# Altium integrated library Xilinx Spartan-II.IntLib: 60 symbols (part 2 of 7)
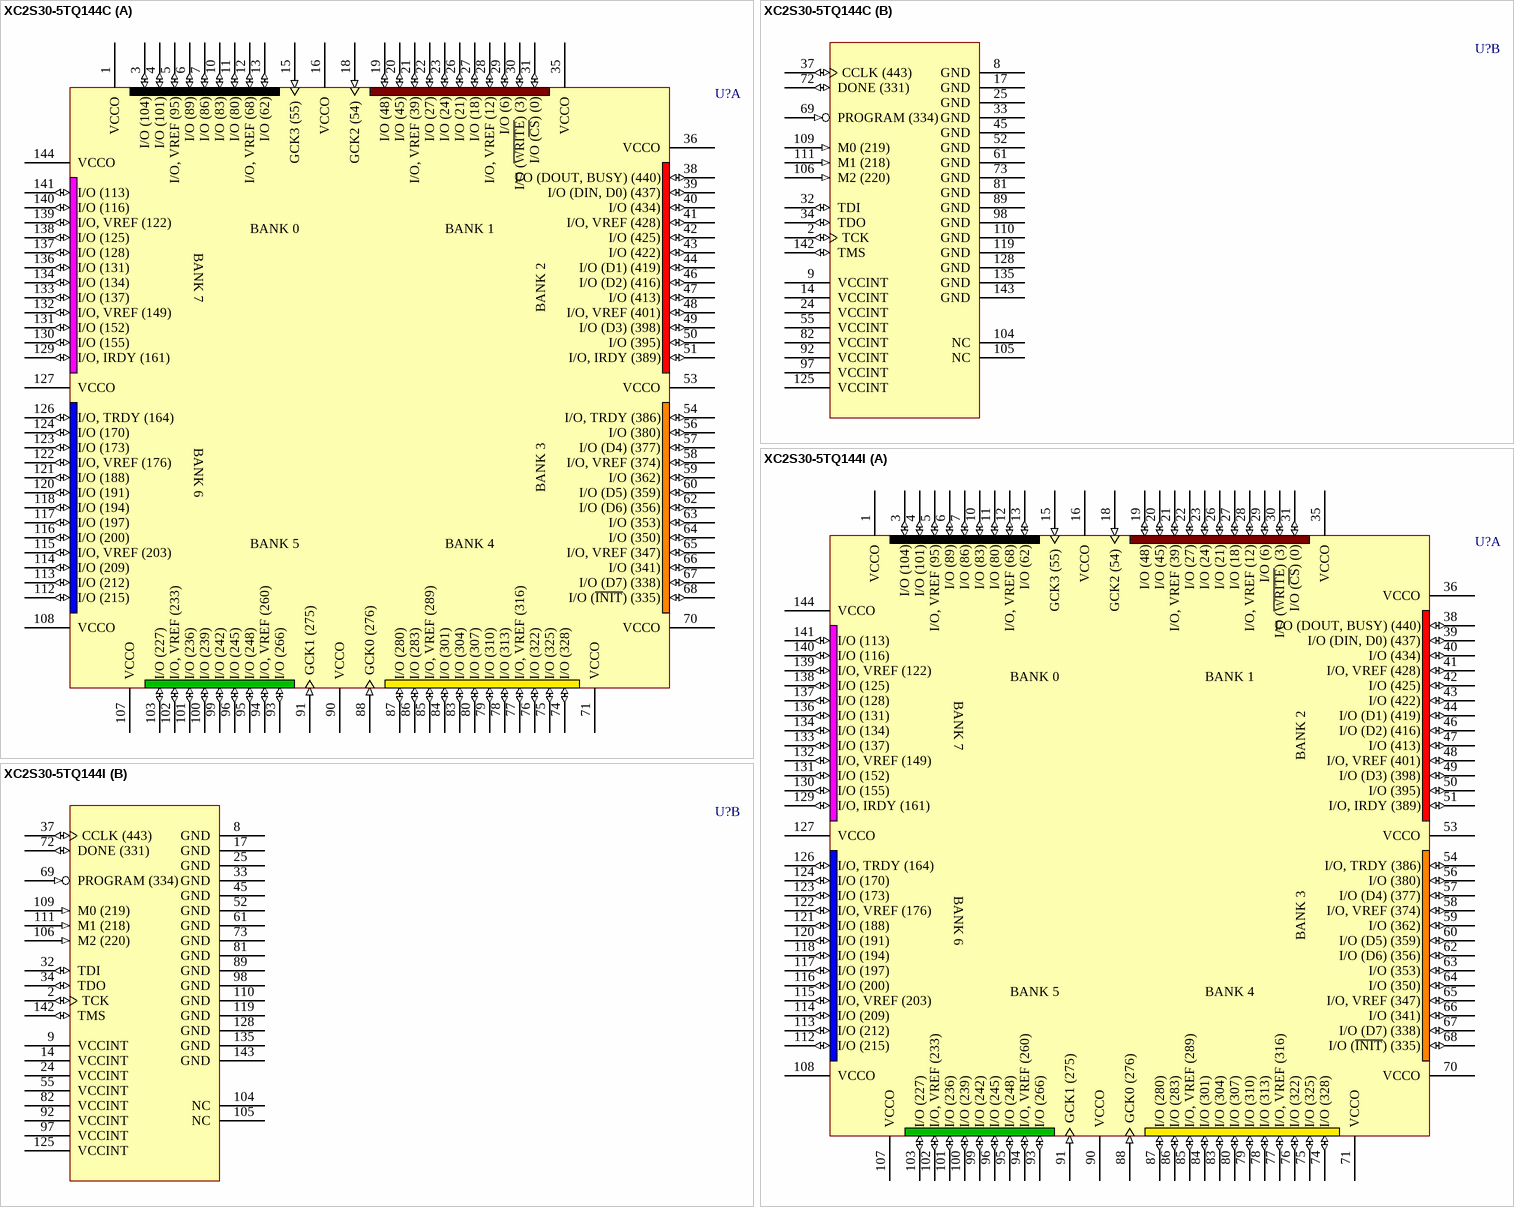
[diagram p75: symbols XC2S30-5TQ144C to XC2S30-5TQ144I]

## XC2S30-5TQ144I
designator U?
Spartan-II 2.5V FPGA, 144-Pin TQFP, Standard Performance, Industrial Grade; PackageDocument: ver1.1, Oct-2002; Published: 13-Jul-2001; LatestRevisionDate: 17-Jul-2002; LatestRevisionNote: Re-released for DXP Platform.; DatasheetDocument: Sep-2003; PackageReference: TQ144; Publisher: Altium Limited; Code_JEDEC: MS-026-BFB; Code_IPC: SQFP20X20-144
footprint TQ144 (144-Pin Thin Quad Flat Pack (TQ144))
3D model XC2S30-TQ144 (144-Pin Thin Quad Flat Pack (TQ144))
signal-integrity model XC2S30_TQ144 (Spartan-II)
part A pins: 1 VCCO (power), 3 I/O (104) (io), 4 I/O (101) (io), 5 I/O, VREF (95) (io), 6 I/O (89) (io), 7 I/O (86) (io), 10 I/O (83) (io), 11 I/O (80) (io), 12 I/O, VREF (68) (io), 13 I/O (62) (io), 15 GCK3 (55) (in), 16 VCCO (power), 18 GCK2 (54) (in), 19 I/O (48) (io), 20 I/O (45) (io), 21 I/O, VREF (39) (io), 22 I/O (27) (io), 23 I/O (24) (io), 26 I/O (21) (io), 27 I/O (18) (io), 28 I/O, VREF (12) (io), 29 I/O (6) (io), 30 I/O (~{WRITE}) (3) (io), 31 I/O (~{CS}) (0) (io), 35 VCCO (power), 36 VCCO (power), 38 I/O (DOUT, BUSY) (440) (io), 39 I/O (DIN, D0) (437) (io), 40 I/O (434) (io), 41 I/O, VREF (428) (io), 42 I/O (425) (io), 43 I/O (422) (io), 44 I/O (D1) (419) (io), 46 I/O (D2) (416) (io), 47 I/O (413) (io), 48 I/O, VREF (401) (io), 49 I/O (D3) (398) (io), 50 I/O (395) (io), 51 I/O, IRDY (389) (io), 53 VCCO (power), 54 I/O, TRDY (386) (io), 56 I/O (380) (io), 57 I/O (D4) (377) (io), 58 I/O, VREF (374) (io), 59 I/O (362) (io), 60 I/O (D5) (359) (io), 62 I/O (D6) (356) (io), 63 I/O (353) (io), 64 I/O (350) (io), 65 I/O, VREF (347) (io), 66 I/O (341) (io), 67 I/O (D7) (338) (io), 68 I/O (~{INIT}) (335) (io), 70 VCCO (power), 71 VCCO (power), 74 I/O (328) (io), 75 I/O (325) (io), 76 I/O (322) (io), 77 I/O, VREF (316) (io), 78 I/O (313) (io), 79 I/O (310) (io), 80 I/O (307) (io), 83 I/O (304) (io), 84 I/O (301) (io), 85 I/O, VREF (289) (io), 86 I/O (283) (io), 87 I/O (280) (io), 88 GCK0 (276) (in), 90 VCCO (power), 91 GCK1 (275) (in), 93 I/O (266) (io), 94 I/O, VREF (260) (io), 95 I/O (248) (io), 96 I/O (245) (io), 99 I/O (242) (io), 100 I/O (239) (io), 101 I/O (236) (io), 102 I/O, VREF (233) (io), 103 I/O (227) (io), 107 VCCO (power), 108 VCCO (power), 112 I/O (215) (io), 113 I/O (212) (io), 114 I/O (209) (io), 115 I/O, VREF (203) (io), 116 I/O (200) (io), 117 I/O (197) (io), 118 I/O (194) (io), 120 I/O (191) (io), 121 I/O (188) (io), 122 I/O, VREF (176) (io), 123 I/O (173) (io), 124 I/O (170) (io), 126 I/O, TRDY (164) (io), 127 VCCO (power), 129 I/O, IRDY (161) (io), 130 I/O (155) (io), 131 I/O (152) (io), 132 I/O, VREF (149) (io), 133 I/O (137) (io), 134 I/O (134) (io), 136 I/O (131) (io), 137 I/O (128) (io), 138 I/O (125) (io), 139 I/O, VREF (122) (io), 140 I/O (116) (io), 141 I/O (113) (io), 144 VCCO (power)
part B pins: 2 TCK (io), 8 GND (power), 9 VCCINT (power), 14 VCCINT (power), 17 GND (power), 24 VCCINT (power), 25 GND (power), 32 TDI (io), 33 GND (power), 34 TDO (io), 37 CCLK (443) (io), 45 GND (power), 52 GND (power), 55 VCCINT (power), 61 GND (power), 69 PROGRAM (334) (in), 72 DONE (331) (io), 73 GND (power), 81 GND (power), 82 VCCINT (power), 89 GND (power), 92 VCCINT (power), 97 VCCINT (power), 98 GND (power), 104 NC, 105 NC, 106 M2 (220) (in), 109 M0 (219) (in), 110 GND (power), 111 M1 (218) (in), 119 GND (power), 125 VCCINT (power), 128 GND (power), 135 GND (power), 142 TMS (io), 143 GND (power)
part A text: BANK 0; BANK 1; BANK 7; BANK 2; BANK 6; BANK 3; BANK 5; BANK 4

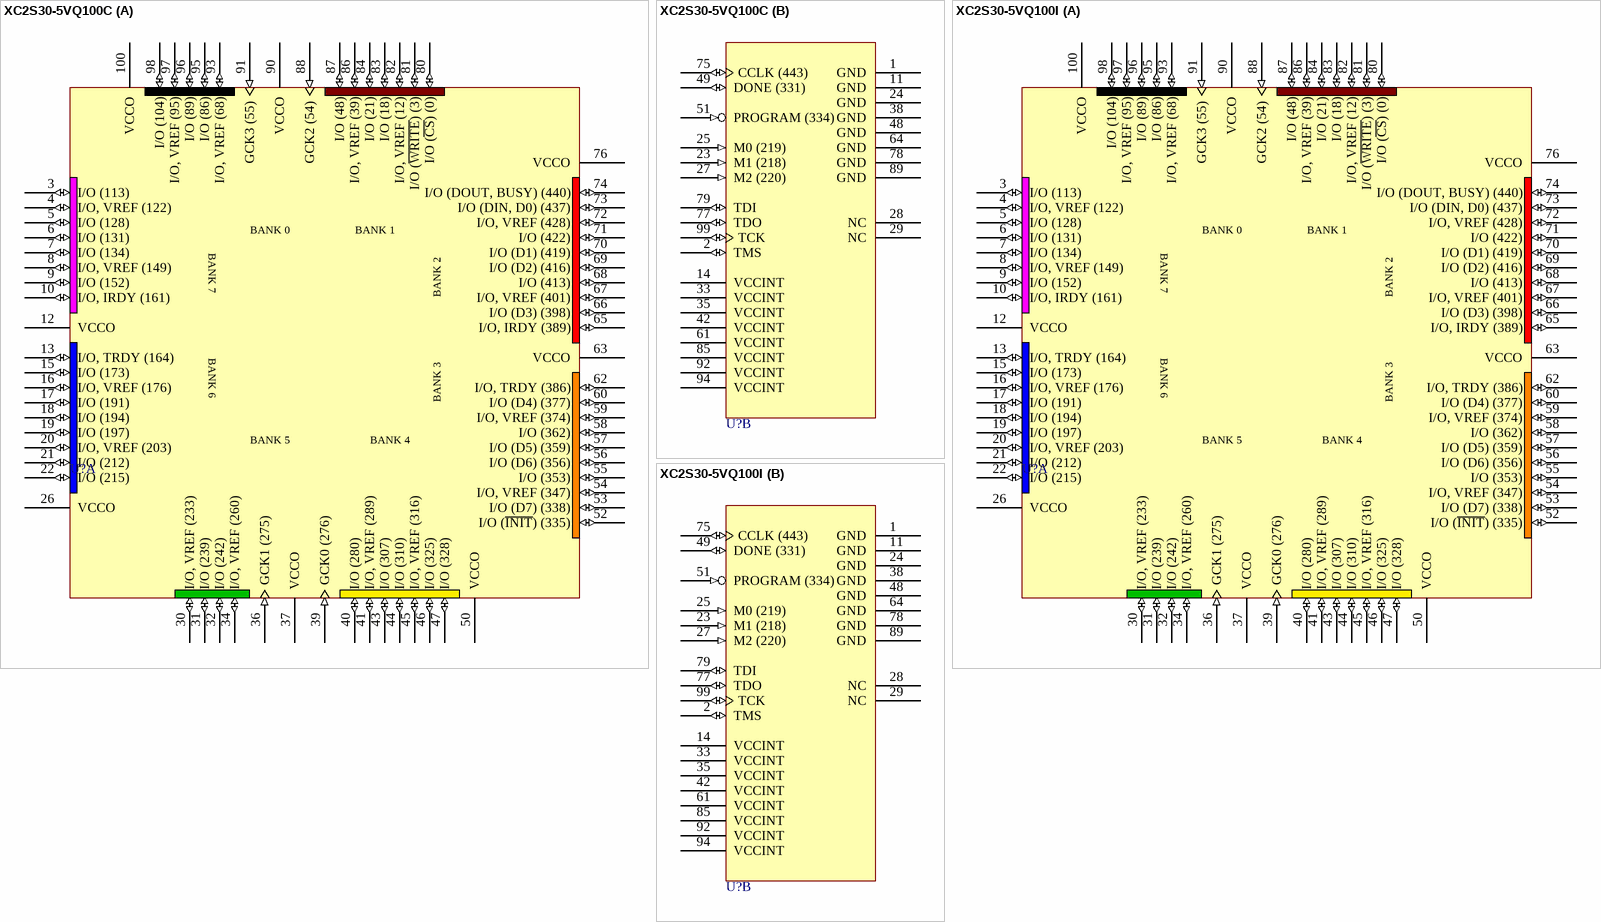
[diagram p9: symbols XC2S30-5VQ100C to XC2S30-5VQ100I]

## XC2S30-5VQ100C
designator U?
Spartan-II 2.5V FPGA, 100-Pin VQFP, Standard Performance, Commercial Grade; PackageDocument: ver1.1, Oct-2002; Published: 13-Jul-2001; LatestRevisionDate: 17-Jul-2002; LatestRevisionNote: Re-released for DXP Platform.; DatasheetDocument: Sep-2003; PackageReference: VQ100; Publisher: Altium Limited; Code_JEDEC: MS-026-AED; Code_IPC: SQFP14X14-100
footprint VQ100 (100-Pin Very Thin Quad Flat Pack (VQ100))
3D model XC2S30-VQ100 (100-Pin Very Thin Quad Flat Pack (VQ100))
signal-integrity model XC2S30_VQ100 (Spartan-II)
part A pins: 3 I/O (113) (io), 4 I/O, VREF (122) (io), 5 I/O (128) (io), 6 I/O (131) (io), 7 I/O (134) (io), 8 I/O, VREF (149) (io), 9 I/O (152) (io), 10 I/O, IRDY (161) (io), 12 VCCO (power), 13 I/O, TRDY (164) (io), 15 I/O (173) (io), 16 I/O, VREF (176) (io), 17 I/O (191) (io), 18 I/O (194) (io), 19 I/O (197) (io), 20 I/O, VREF (203) (io), 21 I/O (212) (io), 22 I/O (215) (io), 26 VCCO (power), 30 I/O, VREF (233) (io), 31 I/O (239) (io), 32 I/O (242) (io), 34 I/O, VREF (260) (io), 36 GCK1 (275) (in), 37 VCCO (power), 39 GCK0 (276) (in), 40 I/O (280) (io), 41 I/O, VREF (289) (io), 43 I/O (307) (io), 44 I/O (310) (io), 45 I/O, VREF (316) (io), 46 I/O (325) (io), 47 I/O (328) (io), 50 VCCO (power), 52 I/O (~{INIT}) (335) (io), 53 I/O (D7) (338) (io), 54 I/O, VREF (347) (io), 55 I/O (353) (io), 56 I/O (D6) (356) (io), 57 I/O (D5) (359) (io), 58 I/O (362) (io), 59 I/O, VREF (374) (io), 60 I/O (D4) (377) (io), 62 I/O, TRDY (386) (io), 63 VCCO (power), 65 I/O, IRDY (389) (io), 66 I/O (D3) (398) (io), 67 I/O, VREF (401) (io), 68 I/O (413) (io), 69 I/O (D2) (416) (io), 70 I/O (D1) (419) (io), 71 I/O (422) (io), 72 I/O, VREF (428) (io), 73 I/O (DIN, D0) (437) (io), 74 I/O (DOUT, BUSY) (440) (io), 76 VCCO (power), 80 I/O (~{CS}) (0) (io), 81 I/O (~{WRITE}) (3) (io), 82 I/O, VREF (12) (io), 83 I/O (18) (io), 84 I/O (21) (io), 86 I/O, VREF (39) (io), 87 I/O (48) (io), 88 GCK2 (54) (in), 90 VCCO (power), 91 GCK3 (55) (in), 93 I/O, VREF (68) (io), 95 I/O (86) (io), 96 I/O (89) (io), 97 I/O, VREF (95) (io), 98 I/O (104) (io), 100 VCCO (power)
part B pins: 1 GND (power), 2 TMS (io), 11 GND (power), 14 VCCINT (power), 23 M1 (218) (in), 24 GND (power), 25 M0 (219) (in), 27 M2 (220) (in), 28 NC, 29 NC, 33 VCCINT (power), 35 VCCINT (power), 38 GND (power), 42 VCCINT (power), 48 GND (power), 49 DONE (331) (io), 51 PROGRAM (334) (in), 61 VCCINT (power), 64 GND (power), 75 CCLK (443) (io), 77 TDO (io), 78 GND (power), 79 TDI (io), 85 VCCINT (power), 89 GND (power), 92 VCCINT (power), 94 VCCINT (power), 99 TCK (io)
part A text: BANK 0; BANK 1; BANK 7; BANK 2; BANK 6; BANK 3; BANK 5; BANK 4

## XC2S30-5VQ100I
designator U?
Spartan-II 2.5V FPGA, 100-Pin VQFP, Standard Performance, Industrial Grade; PackageDocument: ver1.1, Oct-2002; Published: 13-Jul-2001; LatestRevisionDate: 17-Jul-2002; LatestRevisionNote: Re-released for DXP Platform.; DatasheetDocument: Sep-2003; PackageReference: VQ100; Publisher: Altium Limited; Code_JEDEC: MS-026-AED; Code_IPC: SQFP14X14-100
footprint VQ100 (100-Pin Very Thin Quad Flat Pack (VQ100))
3D model XC2S30-VQ100 (100-Pin Very Thin Quad Flat Pack (VQ100))
signal-integrity model XC2S30_VQ100 (Spartan-II)
part A pins: 3 I/O (113) (io), 4 I/O, VREF (122) (io), 5 I/O (128) (io), 6 I/O (131) (io), 7 I/O (134) (io), 8 I/O, VREF (149) (io), 9 I/O (152) (io), 10 I/O, IRDY (161) (io), 12 VCCO (power), 13 I/O, TRDY (164) (io), 15 I/O (173) (io), 16 I/O, VREF (176) (io), 17 I/O (191) (io), 18 I/O (194) (io), 19 I/O (197) (io), 20 I/O, VREF (203) (io), 21 I/O (212) (io), 22 I/O (215) (io), 26 VCCO (power), 30 I/O, VREF (233) (io), 31 I/O (239) (io), 32 I/O (242) (io), 34 I/O, VREF (260) (io), 36 GCK1 (275) (in), 37 VCCO (power), 39 GCK0 (276) (in), 40 I/O (280) (io), 41 I/O, VREF (289) (io), 43 I/O (307) (io), 44 I/O (310) (io), 45 I/O, VREF (316) (io), 46 I/O (325) (io), 47 I/O (328) (io), 50 VCCO (power), 52 I/O (~{INIT}) (335) (io), 53 I/O (D7) (338) (io), 54 I/O, VREF (347) (io), 55 I/O (353) (io), 56 I/O (D6) (356) (io), 57 I/O (D5) (359) (io), 58 I/O (362) (io), 59 I/O, VREF (374) (io), 60 I/O (D4) (377) (io), 62 I/O, TRDY (386) (io), 63 VCCO (power), 65 I/O, IRDY (389) (io), 66 I/O (D3) (398) (io), 67 I/O, VREF (401) (io), 68 I/O (413) (io), 69 I/O (D2) (416) (io), 70 I/O (D1) (419) (io), 71 I/O (422) (io), 72 I/O, VREF (428) (io), 73 I/O (DIN, D0) (437) (io), 74 I/O (DOUT, BUSY) (440) (io), 76 VCCO (power), 80 I/O (~{CS}) (0) (io), 81 I/O (~{WRITE}) (3) (io), 82 I/O, VREF (12) (io), 83 I/O (18) (io), 84 I/O (21) (io), 86 I/O, VREF (39) (io), 87 I/O (48) (io), 88 GCK2 (54) (in), 90 VCCO (power), 91 GCK3 (55) (in), 93 I/O, VREF (68) (io), 95 I/O (86) (io), 96 I/O (89) (io), 97 I/O, VREF (95) (io), 98 I/O (104) (io), 100 VCCO (power)
part B pins: 1 GND (power), 2 TMS (io), 11 GND (power), 14 VCCINT (power), 23 M1 (218) (in), 24 GND (power), 25 M0 (219) (in), 27 M2 (220) (in), 28 NC, 29 NC, 33 VCCINT (power), 35 VCCINT (power), 38 GND (power), 42 VCCINT (power), 48 GND (power), 49 DONE (331) (io), 51 PROGRAM (334) (in), 61 VCCINT (power), 64 GND (power), 75 CCLK (443) (io), 77 TDO (io), 78 GND (power), 79 TDI (io), 85 VCCINT (power), 89 GND (power), 92 VCCINT (power), 94 VCCINT (power), 99 TCK (io)
part A text: BANK 0; BANK 1; BANK 7; BANK 2; BANK 6; BANK 3; BANK 5; BANK 4

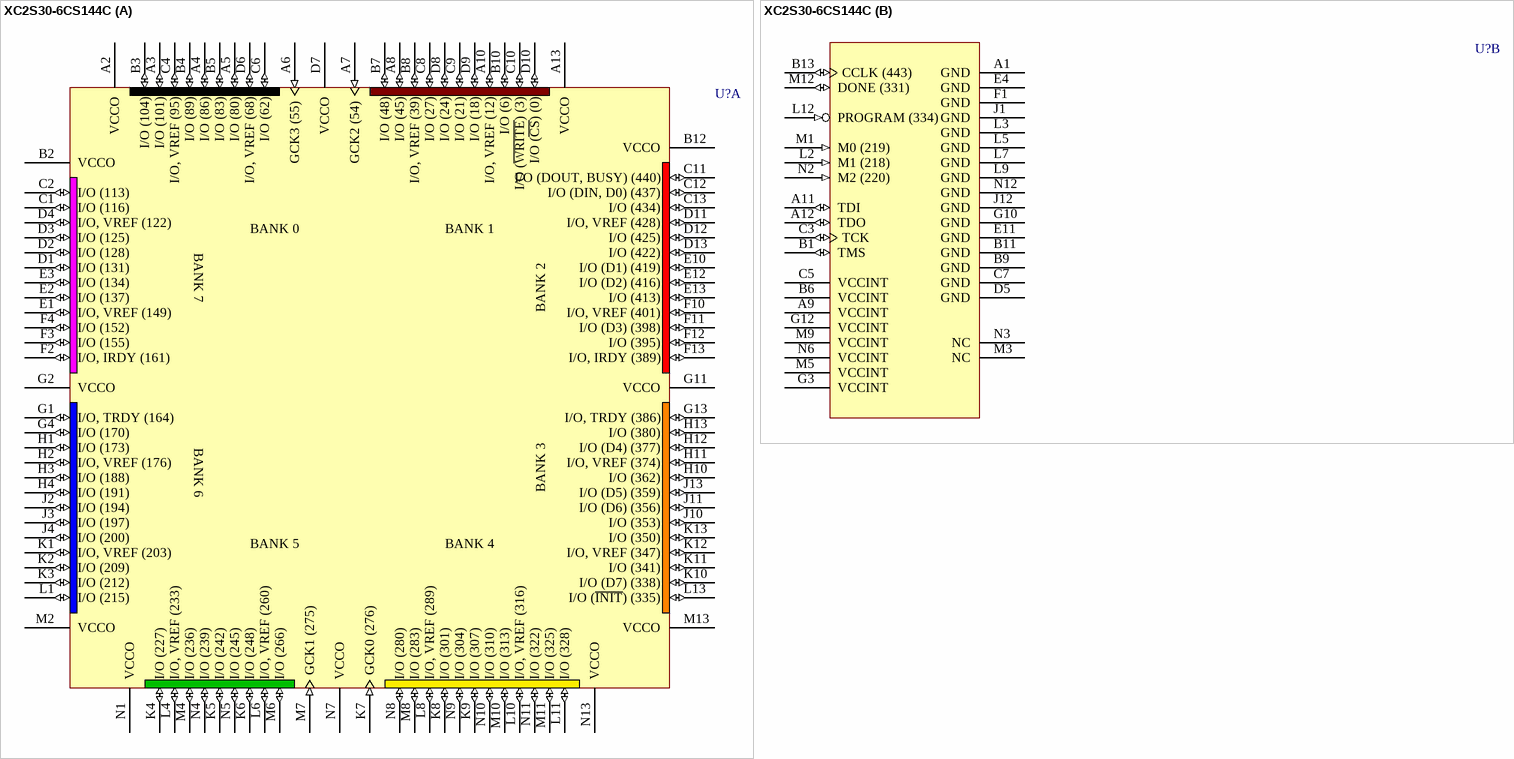
[diagram p10: symbol XC2S30-6CS144C]

## XC2S30-6CS144C
designator U?
Spartan-II 2.5V FPGA, 144-Ball CSBGA, Higher Performance, Commercial Grade; PackageDocument: ver1.0, Jun-2000; Published: 13-Jul-2001; LatestRevisionDate: 17-Sep-2003; LatestRevisionNote: PCB Footprint dimensions updated; DatasheetDocument: Sep-2003; PackageReference: CS144; Publisher: Altium Limited
footprint CS144 (144-Ball Chip Scale Ball Grid Array (CS144))
3D model XC2S30-CS144 (144-Ball Chip Scale Ball Grid Array (CS144))
signal-integrity model XC2S30_CS144 (Spartan-II)
part A pins: A2 VCCO (power), A3 I/O (101) (io), A4 I/O (86) (io), A5 I/O (80) (io), A6 GCK3 (55) (in), A7 GCK2 (54) (in), A8 I/O (45) (io), A10 I/O, VREF (12) (io), A13 VCCO (power), B2 VCCO (power), B3 I/O (104) (io), B4 I/O (89) (io), B5 I/O (83) (io), B7 I/O (48) (io), B8 I/O, VREF (39) (io), B10 I/O (6) (io), B12 VCCO (power), C1 I/O (116) (io), C2 I/O (113) (io), C4 I/O, VREF (95) (io), C6 I/O (62) (io), C8 I/O (27) (io), C9 I/O (21) (io), C10 I/O (~{WRITE}) (3) (io), C11 I/O (DOUT, BUSY) (440) (io), C12 I/O (DIN, D0) (437) (io), C13 I/O (434) (io), D1 I/O (131) (io), D2 I/O (128) (io), D3 I/O (125) (io), D4 I/O, VREF (122) (io), D6 I/O, VREF (68) (io), D7 VCCO (power), D8 I/O (24) (io), D9 I/O (18) (io), D10 I/O (~{CS}) (0) (io), D11 I/O, VREF (428) (io), D12 I/O (425) (io), D13 I/O (422) (io), E1 I/O, VREF (149) (io), E2 I/O (137) (io), E3 I/O (134) (io), E10 I/O (D1) (419) (io), E12 I/O (D2) (416) (io), E13 I/O (413) (io), F2 I/O, IRDY (161) (io), F3 I/O (155) (io), F4 I/O (152) (io), F10 I/O, VREF (401) (io), F11 I/O (D3) (398) (io), F12 I/O (395) (io), F13 I/O, IRDY (389) (io), G1 I/O, TRDY (164) (io), G2 VCCO (power), G4 I/O (170) (io), G11 VCCO (power), G13 I/O, TRDY (386) (io), H1 I/O (173) (io), H2 I/O, VREF (176) (io), H3 I/O (188) (io), H4 I/O (191) (io), H10 I/O (362) (io), H11 I/O, VREF (374) (io), H12 I/O (D4) (377) (io), H13 I/O (380) (io), J2 I/O (194) (io), J3 I/O (197) (io), J4 I/O (200) (io), J10 I/O (353) (io), J11 I/O (D6) (356) (io), J13 I/O (D5) (359) (io), K1 I/O, VREF (203) (io), K2 I/O (209) (io), K3 I/O (212) (io), K4 I/O (227) (io), K5 I/O (242) (io), K6 I/O (248) (io), K7 GCK0 (276) (in), K8 I/O (301) (io), K9 I/O (307) (io), K10 I/O (D7) (338) (io), K11 I/O (341) (io), K12 I/O, VREF (347) (io), K13 I/O (350) (io), L1 I/O (215) (io), L4 I/O, VREF (233) (io), L6 I/O, VREF (260) (io), L8 I/O, VREF (289) (io), L10 I/O, VREF (316) (io), L11 I/O (328) (io), L13 I/O (~{INIT}) (335) (io), M2 VCCO (power), M4 I/O (236) (io), M6 I/O (266) (io), M7 GCK1 (275) (in), M8 I/O (283) (io), M10 I/O (313) (io), M11 I/O (325) (io), M13 VCCO (power), N1 VCCO (power), N4 I/O (239) (io), N5 I/O (245) (io), N7 VCCO (power), N8 I/O (280) (io), N9 I/O (304) (io), N10 I/O (310) (io), N11 I/O (322) (io), N13 VCCO (power)
part B pins: A1 GND (power), A9 VCCINT (power), A11 TDI (io), A12 TDO (io), B1 TMS (io), B6 VCCINT (power), B9 GND (power), B11 GND (power), B13 CCLK (443) (io), C3 TCK (io), C5 VCCINT (power), C7 GND (power), D5 GND (power), E4 GND (power), E11 GND (power), F1 GND (power), G3 VCCINT (power), G10 GND (power), G12 VCCINT (power), J1 GND (power), J12 GND (power), L2 M1 (218) (in), L3 GND (power), L5 GND (power), L7 GND (power), L9 GND (power), L12 PROGRAM (334) (in), M1 M0 (219) (in), M3 NC, M5 VCCINT (power), M9 VCCINT (power), M12 DONE (331) (io), N2 M2 (220) (in), N3 NC, N6 VCCINT (power), N12 GND (power)
part A text: BANK 0; BANK 1; BANK 7; BANK 2; BANK 6; BANK 3; BANK 5; BANK 4

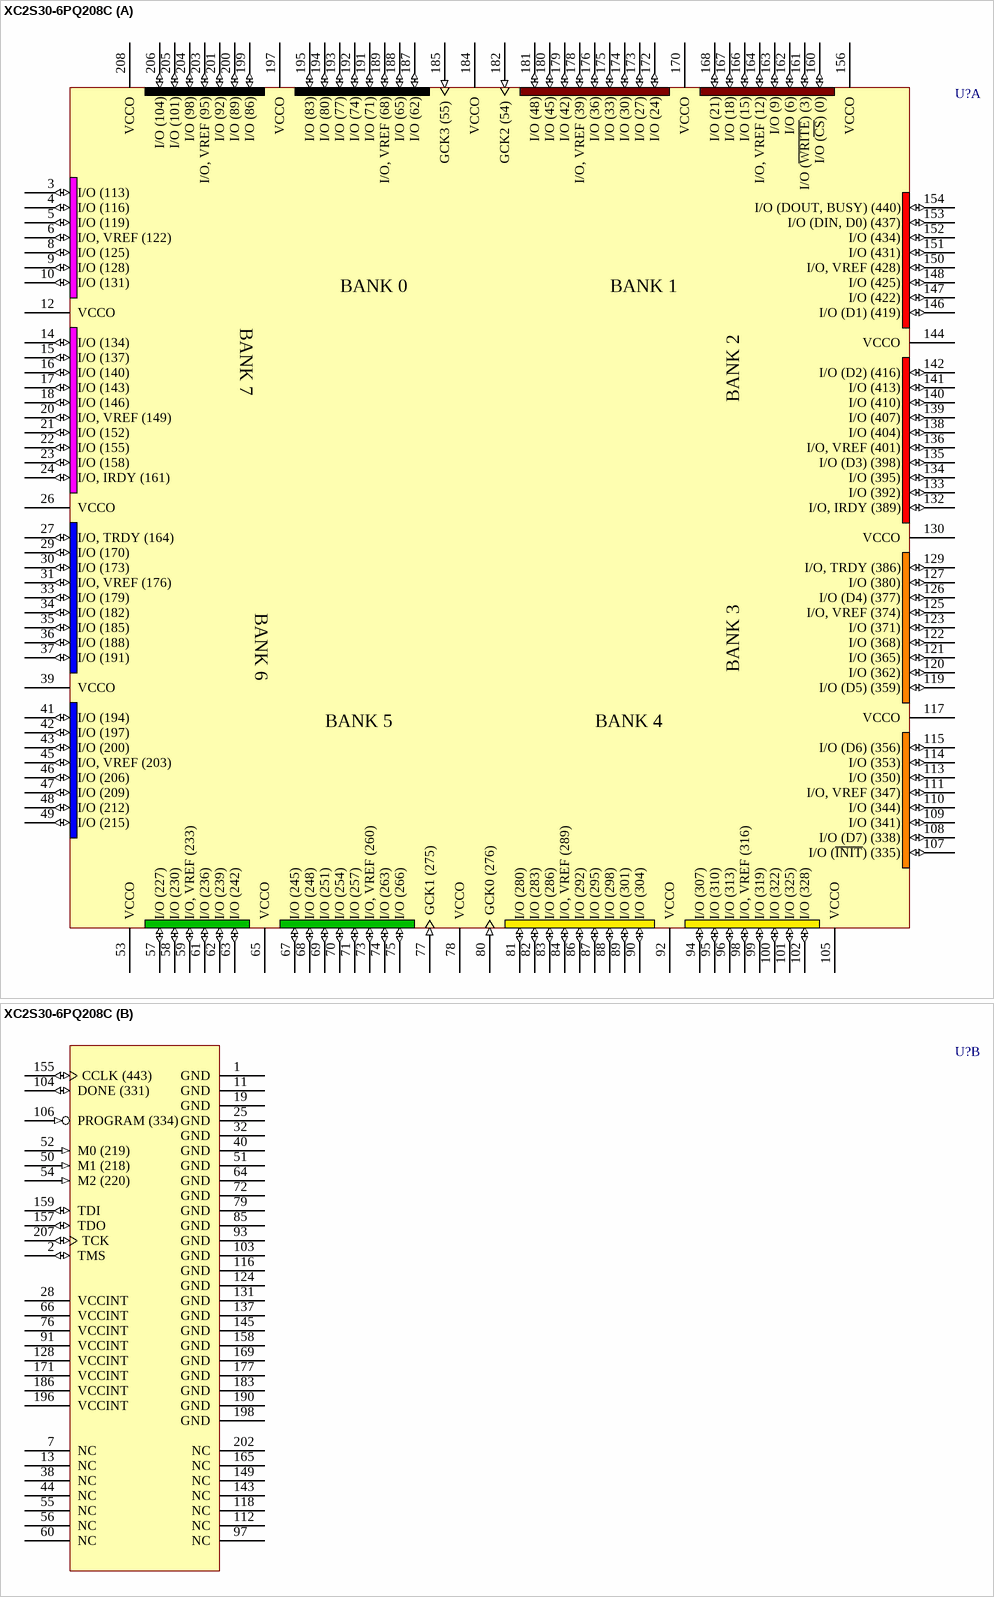
[diagram p11: symbol XC2S30-6PQ208C]

## XC2S30-6PQ208C
designator U?
Spartan-II 2.5V FPGA, 208-Pin PQFP, Higher Performance, Commercial Grade; PackageDocument: ver1.1, Oct-2002; Published: 13-Jul-2001; LatestRevisionDate: 17-Jul-2002; LatestRevisionNote: Re-released for DXP Platform.; DatasheetDocument: Sep-2003; PackageReference: PQ208; Publisher: Altium Limited; Code_JEDEC: MS-029-FA-1
footprint PQ208 (208-Pin Plastic Quad Flat Pack (PQ208))
3D model XC2S30-PQ208 (208-Pin Plastic Quad Flat Pack (PQ208))
signal-integrity model XC2S30_PQ208 (Spartan-II)
part A pins: 3 I/O (113) (io), 4 I/O (116) (io), 5 I/O (119) (io), 6 I/O, VREF (122) (io), 8 I/O (125) (io), 9 I/O (128) (io), 10 I/O (131) (io), 12 VCCO (power), 14 I/O (134) (io), 15 I/O (137) (io), 16 I/O (140) (io), 17 I/O (143) (io), 18 I/O (146) (io), 20 I/O, VREF (149) (io), 21 I/O (152) (io), 22 I/O (155) (io), 23 I/O (158) (io), 24 I/O, IRDY (161) (io), 26 VCCO (power), 27 I/O, TRDY (164) (io), 29 I/O (170) (io), 30 I/O (173) (io), 31 I/O, VREF (176) (io), 33 I/O (179) (io), 34 I/O (182) (io), 35 I/O (185) (io), 36 I/O (188) (io), 37 I/O (191) (io), 39 VCCO (power), 41 I/O (194) (io), 42 I/O (197) (io), 43 I/O (200) (io), 45 I/O, VREF (203) (io), 46 I/O (206) (io), 47 I/O (209) (io), 48 I/O (212) (io), 49 I/O (215) (io), 53 VCCO (power), 57 I/O (227) (io), 58 I/O (230) (io), 59 I/O, VREF (233) (io), 61 I/O (236) (io), 62 I/O (239) (io), 63 I/O (242) (io), 65 VCCO (power), 67 I/O (245) (io), 68 I/O (248) (io), 69 I/O (251) (io), 70 I/O (254) (io), 71 I/O (257) (io), 73 I/O, VREF (260) (io), 74 I/O (263) (io), 75 I/O (266) (io), 77 GCK1 (275) (in), 78 VCCO (power), 80 GCK0 (276) (in), 81 I/O (280) (io), 82 I/O (283) (io), 83 I/O (286) (io), 84 I/O, VREF (289) (io), 86 I/O (292) (io), 87 I/O (295) (io), 88 I/O (298) (io), 89 I/O (301) (io), 90 I/O (304) (io), 92 VCCO (power), 94 I/O (307) (io), 95 I/O (310) (io), 96 I/O (313) (io), 98 I/O, VREF (316) (io), 99 I/O (319) (io), 100 I/O (322) (io), 101 I/O (325) (io), 102 I/O (328) (io), 105 VCCO (power), 107 I/O (~{INIT}) (335) (io), 108 I/O (D7) (338) (io), 109 I/O (341) (io), 110 I/O (344) (io), 111 I/O, VREF (347) (io), 113 I/O (350) (io), 114 I/O (353) (io), 115 I/O (D6) (356) (io), 117 VCCO (power), 119 I/O (D5) (359) (io), 120 I/O (362) (io), 121 I/O (365) (io), 122 I/O (368) (io), 123 I/O (371) (io), 125 I/O, VREF (374) (io), 126 I/O (D4) (377) (io), 127 I/O (380) (io), 129 I/O, TRDY (386) (io), 130 VCCO (power), 132 I/O, IRDY (389) (io), 133 I/O (392) (io), 134 I/O (395) (io), 135 I/O (D3) (398) (io), 136 I/O, VREF (401) (io), 138 I/O (404) (io), 139 I/O (407) (io), 140 I/O (410) (io), 141 I/O (413) (io), 142 I/O (D2) (416) (io), 144 VCCO (power), 146 I/O (D1) (419) (io), 147 I/O (422) (io), 148 I/O (425) (io), 150 I/O, VREF (428) (io), 151 I/O (431) (io), 152 I/O (434) (io), 153 I/O (DIN, D0) (437) (io), 154 I/O (DOUT, BUSY) (440) (io), 156 VCCO (power), 160 I/O (~{CS}) (0) (io), 161 I/O (~{WRITE}) (3) (io), 162 I/O (6) (io), 163 I/O (9) (io), 164 I/O, VREF (12) (io), 166 I/O (15) (io), 167 I/O (18) (io), 168 I/O (21) (io), 170 VCCO (power), 172 I/O (24) (io), 173 I/O (27) (io), 174 I/O (30) (io), 175 I/O (33) (io), 176 I/O (36) (io), 178 I/O, VREF (39) (io), 179 I/O (42) (io), 180 I/O (45) (io), 181 I/O (48) (io), 182 GCK2 (54) (in), 184 VCCO (power), 185 GCK3 (55) (in), 187 I/O (62) (io), 188 I/O (65) (io), 189 I/O, VREF (68) (io), 191 I/O (71) (io), 192 I/O (74) (io), 193 I/O (77) (io), 194 I/O (80) (io), 195 I/O (83) (io), 197 VCCO (power), 199 I/O (86) (io), 200 I/O (89) (io), 201 I/O (92) (io), 203 I/O, VREF (95) (io), 204 I/O (98) (io), 205 I/O (101) (io), 206 I/O (104) (io), 208 VCCO (power)
part B pins: 1 GND (power), 2 TMS (io), 7 NC, 11 GND (power), 13 NC, 19 GND (power), 25 GND (power), 28 VCCINT (power), 32 GND (power), 38 NC, 40 GND (power), 44 NC, 50 M1 (218) (in), 51 GND (power), 52 M0 (219) (in), 54 M2 (220) (in), 55 NC, 56 NC, 60 NC, 64 GND (power), 66 VCCINT (power), 72 GND (power), 76 VCCINT (power), 79 GND (power), 85 GND (power), 91 VCCINT (power), 93 GND (power), 97 NC, 103 GND (power), 104 DONE (331) (io), 106 PROGRAM (334) (in), 112 NC, 116 GND (power), 118 NC, 124 GND (power), 128 VCCINT (power), 131 GND (power), 137 GND (power), 143 NC, 145 GND (power), 149 NC, 155 CCLK (443) (io), 157 TDO (io), 158 GND (power), 159 TDI (io), 165 NC, 169 GND (power), 171 VCCINT (power), 177 GND (power), 183 GND (power), 186 VCCINT (power), 190 GND (power), 196 VCCINT (power), 198 GND (power), 202 NC, 207 TCK (io)
part A text: BANK 0; BANK 1; BANK 7; BANK 2; BANK 6; BANK 3; BANK 5; BANK 4

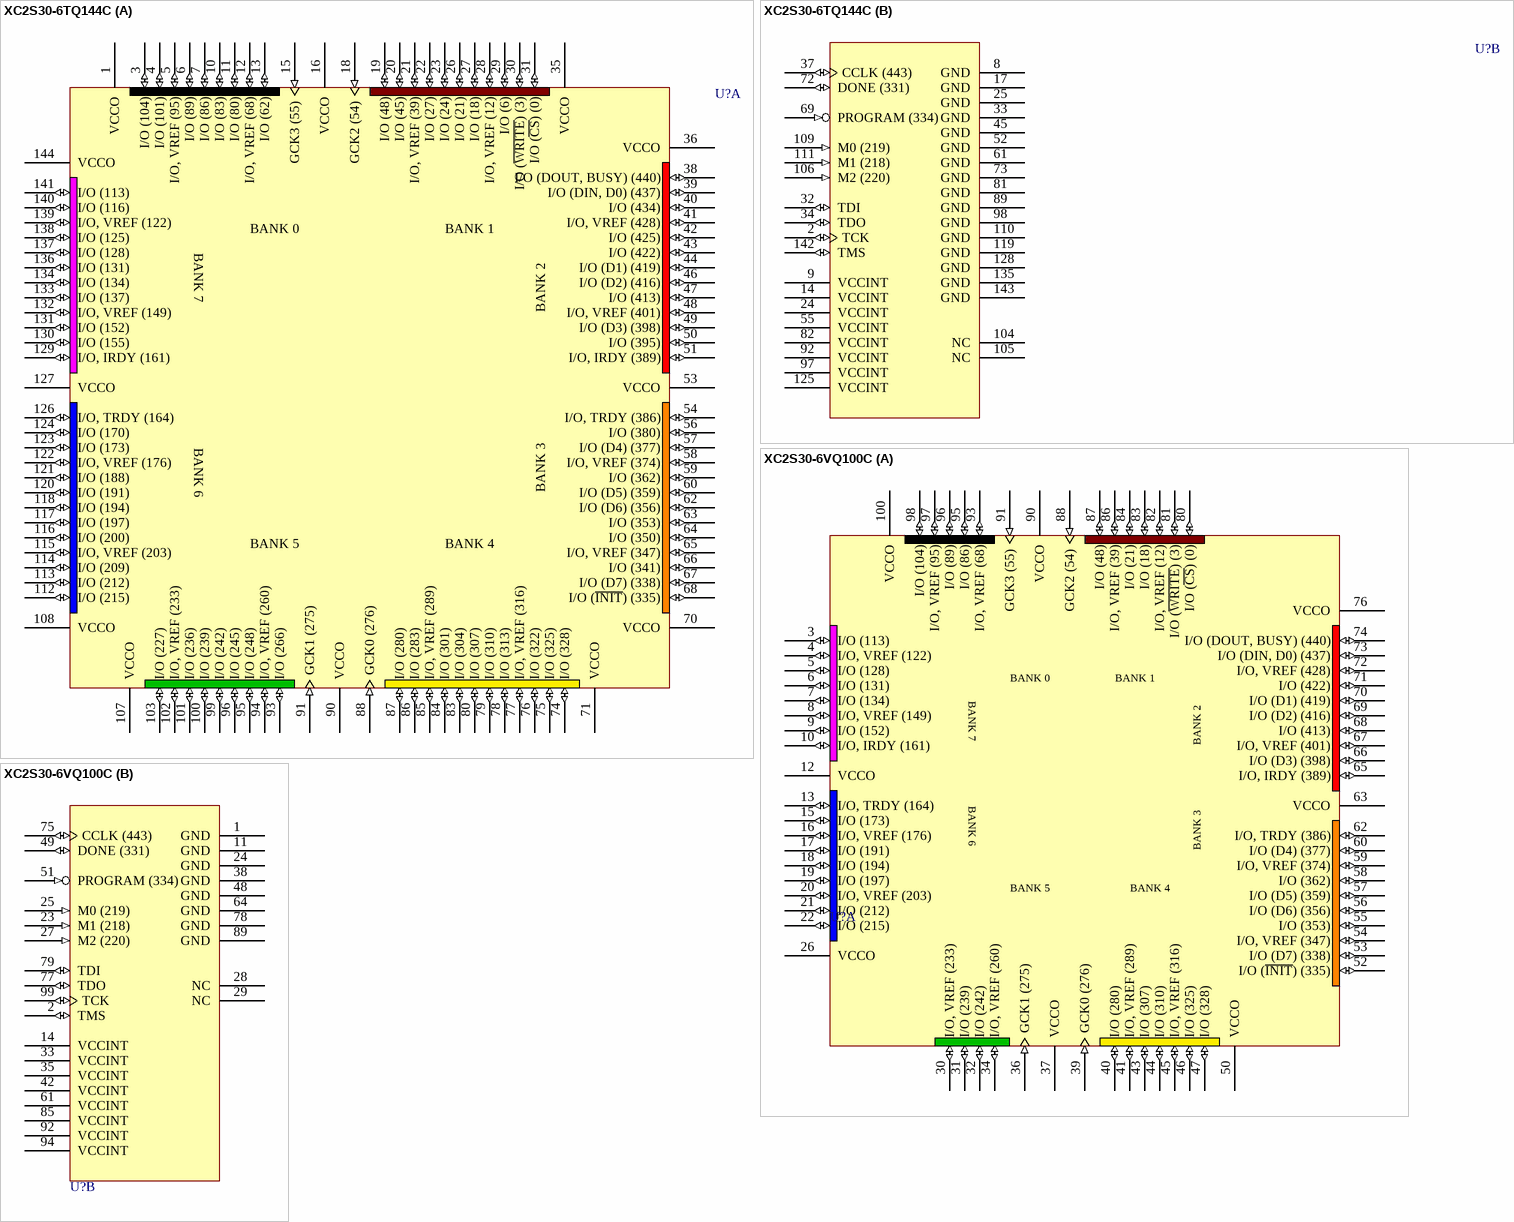
[diagram p12: symbols XC2S30-6TQ144C to XC2S30-6VQ100C]

## XC2S30-6TQ144C
designator U?
Spartan-II 2.5V FPGA, 144-Pin TQFP, Higher Performance, Commercial Grade; PackageDocument: ver1.1, Oct-2002; Published: 13-Jul-2001; LatestRevisionDate: 17-Jul-2002; LatestRevisionNote: Re-released for DXP Platform.; DatasheetDocument: Sep-2003; PackageReference: TQ144; Publisher: Altium Limited; Code_JEDEC: MS-026-BFB; Code_IPC: SQFP20X20-144
footprint TQ144 (144-Pin Thin Quad Flat Pack (TQ144))
3D model XC2S30-TQ144 (144-Pin Thin Quad Flat Pack (TQ144))
signal-integrity model XC2S30_TQ144 (Spartan-II)
part A pins: 1 VCCO (power), 3 I/O (104) (io), 4 I/O (101) (io), 5 I/O, VREF (95) (io), 6 I/O (89) (io), 7 I/O (86) (io), 10 I/O (83) (io), 11 I/O (80) (io), 12 I/O, VREF (68) (io), 13 I/O (62) (io), 15 GCK3 (55) (in), 16 VCCO (power), 18 GCK2 (54) (in), 19 I/O (48) (io), 20 I/O (45) (io), 21 I/O, VREF (39) (io), 22 I/O (27) (io), 23 I/O (24) (io), 26 I/O (21) (io), 27 I/O (18) (io), 28 I/O, VREF (12) (io), 29 I/O (6) (io), 30 I/O (~{WRITE}) (3) (io), 31 I/O (~{CS}) (0) (io), 35 VCCO (power), 36 VCCO (power), 38 I/O (DOUT, BUSY) (440) (io), 39 I/O (DIN, D0) (437) (io), 40 I/O (434) (io), 41 I/O, VREF (428) (io), 42 I/O (425) (io), 43 I/O (422) (io), 44 I/O (D1) (419) (io), 46 I/O (D2) (416) (io), 47 I/O (413) (io), 48 I/O, VREF (401) (io), 49 I/O (D3) (398) (io), 50 I/O (395) (io), 51 I/O, IRDY (389) (io), 53 VCCO (power), 54 I/O, TRDY (386) (io), 56 I/O (380) (io), 57 I/O (D4) (377) (io), 58 I/O, VREF (374) (io), 59 I/O (362) (io), 60 I/O (D5) (359) (io), 62 I/O (D6) (356) (io), 63 I/O (353) (io), 64 I/O (350) (io), 65 I/O, VREF (347) (io), 66 I/O (341) (io), 67 I/O (D7) (338) (io), 68 I/O (~{INIT}) (335) (io), 70 VCCO (power), 71 VCCO (power), 74 I/O (328) (io), 75 I/O (325) (io), 76 I/O (322) (io), 77 I/O, VREF (316) (io), 78 I/O (313) (io), 79 I/O (310) (io), 80 I/O (307) (io), 83 I/O (304) (io), 84 I/O (301) (io), 85 I/O, VREF (289) (io), 86 I/O (283) (io), 87 I/O (280) (io), 88 GCK0 (276) (in), 90 VCCO (power), 91 GCK1 (275) (in), 93 I/O (266) (io), 94 I/O, VREF (260) (io), 95 I/O (248) (io), 96 I/O (245) (io), 99 I/O (242) (io), 100 I/O (239) (io), 101 I/O (236) (io), 102 I/O, VREF (233) (io), 103 I/O (227) (io), 107 VCCO (power), 108 VCCO (power), 112 I/O (215) (io), 113 I/O (212) (io), 114 I/O (209) (io), 115 I/O, VREF (203) (io), 116 I/O (200) (io), 117 I/O (197) (io), 118 I/O (194) (io), 120 I/O (191) (io), 121 I/O (188) (io), 122 I/O, VREF (176) (io), 123 I/O (173) (io), 124 I/O (170) (io), 126 I/O, TRDY (164) (io), 127 VCCO (power), 129 I/O, IRDY (161) (io), 130 I/O (155) (io), 131 I/O (152) (io), 132 I/O, VREF (149) (io), 133 I/O (137) (io), 134 I/O (134) (io), 136 I/O (131) (io), 137 I/O (128) (io), 138 I/O (125) (io), 139 I/O, VREF (122) (io), 140 I/O (116) (io), 141 I/O (113) (io), 144 VCCO (power)
part B pins: 2 TCK (io), 8 GND (power), 9 VCCINT (power), 14 VCCINT (power), 17 GND (power), 24 VCCINT (power), 25 GND (power), 32 TDI (io), 33 GND (power), 34 TDO (io), 37 CCLK (443) (io), 45 GND (power), 52 GND (power), 55 VCCINT (power), 61 GND (power), 69 PROGRAM (334) (in), 72 DONE (331) (io), 73 GND (power), 81 GND (power), 82 VCCINT (power), 89 GND (power), 92 VCCINT (power), 97 VCCINT (power), 98 GND (power), 104 NC, 105 NC, 106 M2 (220) (in), 109 M0 (219) (in), 110 GND (power), 111 M1 (218) (in), 119 GND (power), 125 VCCINT (power), 128 GND (power), 135 GND (power), 142 TMS (io), 143 GND (power)
part A text: BANK 0; BANK 1; BANK 7; BANK 2; BANK 6; BANK 3; BANK 5; BANK 4

## XC2S30-6VQ100C
designator U?
Spartan-II 2.5V FPGA, 100-Pin VQFP, Higher Performance, Commercial Grade; PackageDocument: ver1.1, Oct-2002; Published: 13-Jul-2001; LatestRevisionDate: 17-Jul-2002; LatestRevisionNote: Re-released for DXP Platform.; DatasheetDocument: Sep-2003; PackageReference: VQ100; Publisher: Altium Limited; Code_JEDEC: MS-026-AED; Code_IPC: SQFP14X14-100
footprint VQ100 (100-Pin Very Thin Quad Flat Pack (VQ100))
3D model XC2S30-VQ100 (100-Pin Very Thin Quad Flat Pack (VQ100))
signal-integrity model XC2S30_VQ100 (Spartan-II)
part A pins: 3 I/O (113) (io), 4 I/O, VREF (122) (io), 5 I/O (128) (io), 6 I/O (131) (io), 7 I/O (134) (io), 8 I/O, VREF (149) (io), 9 I/O (152) (io), 10 I/O, IRDY (161) (io), 12 VCCO (power), 13 I/O, TRDY (164) (io), 15 I/O (173) (io), 16 I/O, VREF (176) (io), 17 I/O (191) (io), 18 I/O (194) (io), 19 I/O (197) (io), 20 I/O, VREF (203) (io), 21 I/O (212) (io), 22 I/O (215) (io), 26 VCCO (power), 30 I/O, VREF (233) (io), 31 I/O (239) (io), 32 I/O (242) (io), 34 I/O, VREF (260) (io), 36 GCK1 (275) (in), 37 VCCO (power), 39 GCK0 (276) (in), 40 I/O (280) (io), 41 I/O, VREF (289) (io), 43 I/O (307) (io), 44 I/O (310) (io), 45 I/O, VREF (316) (io), 46 I/O (325) (io), 47 I/O (328) (io), 50 VCCO (power), 52 I/O (~{INIT}) (335) (io), 53 I/O (D7) (338) (io), 54 I/O, VREF (347) (io), 55 I/O (353) (io), 56 I/O (D6) (356) (io), 57 I/O (D5) (359) (io), 58 I/O (362) (io), 59 I/O, VREF (374) (io), 60 I/O (D4) (377) (io), 62 I/O, TRDY (386) (io), 63 VCCO (power), 65 I/O, IRDY (389) (io), 66 I/O (D3) (398) (io), 67 I/O, VREF (401) (io), 68 I/O (413) (io), 69 I/O (D2) (416) (io), 70 I/O (D1) (419) (io), 71 I/O (422) (io), 72 I/O, VREF (428) (io), 73 I/O (DIN, D0) (437) (io), 74 I/O (DOUT, BUSY) (440) (io), 76 VCCO (power), 80 I/O (~{CS}) (0) (io), 81 I/O (~{WRITE}) (3) (io), 82 I/O, VREF (12) (io), 83 I/O (18) (io), 84 I/O (21) (io), 86 I/O, VREF (39) (io), 87 I/O (48) (io), 88 GCK2 (54) (in), 90 VCCO (power), 91 GCK3 (55) (in), 93 I/O, VREF (68) (io), 95 I/O (86) (io), 96 I/O (89) (io), 97 I/O, VREF (95) (io), 98 I/O (104) (io), 100 VCCO (power)
part B pins: 1 GND (power), 2 TMS (io), 11 GND (power), 14 VCCINT (power), 23 M1 (218) (in), 24 GND (power), 25 M0 (219) (in), 27 M2 (220) (in), 28 NC, 29 NC, 33 VCCINT (power), 35 VCCINT (power), 38 GND (power), 42 VCCINT (power), 48 GND (power), 49 DONE (331) (io), 51 PROGRAM (334) (in), 61 VCCINT (power), 64 GND (power), 75 CCLK (443) (io), 77 TDO (io), 78 GND (power), 79 TDI (io), 85 VCCINT (power), 89 GND (power), 92 VCCINT (power), 94 VCCINT (power), 99 TCK (io)
part A text: BANK 0; BANK 1; BANK 7; BANK 2; BANK 6; BANK 3; BANK 5; BANK 4

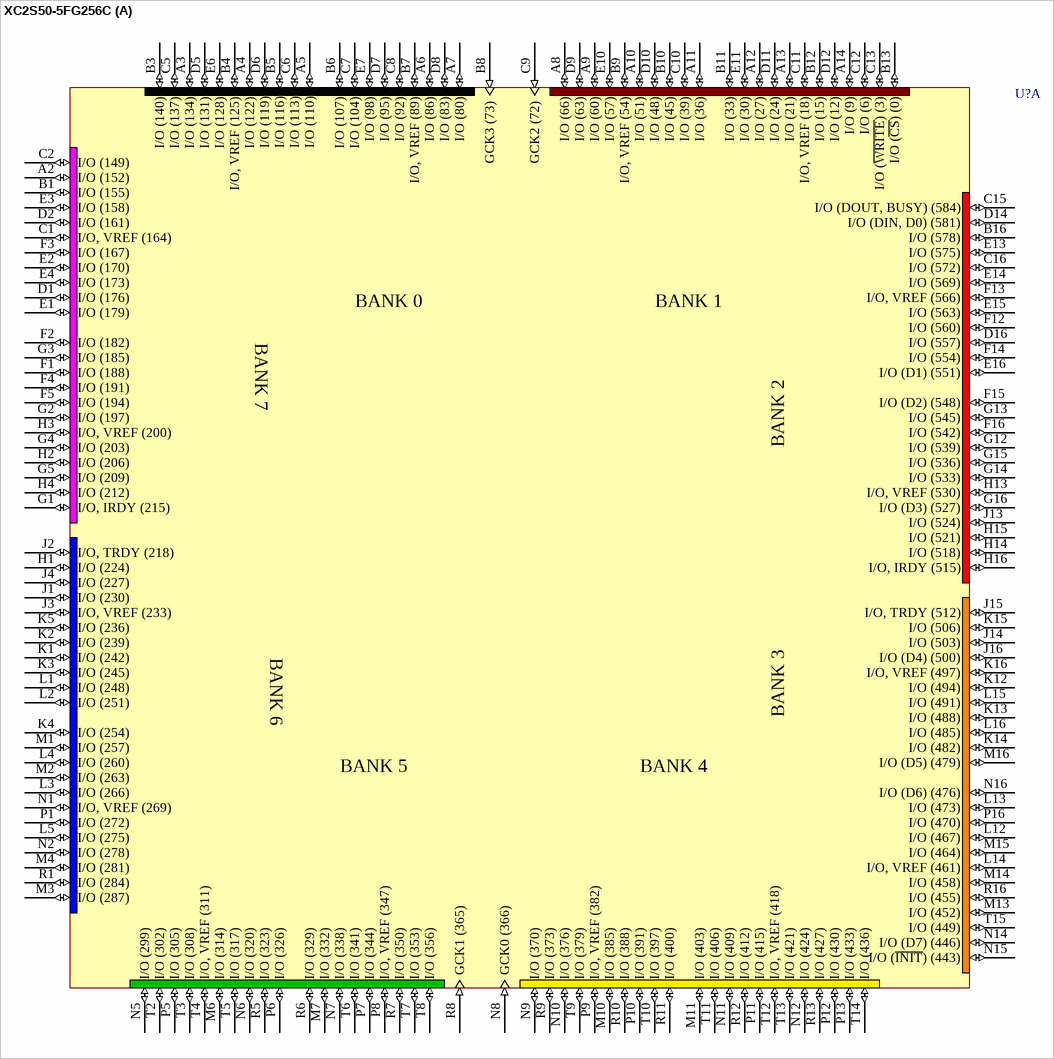
[diagram p13: symbol XC2S50-5FG256C]

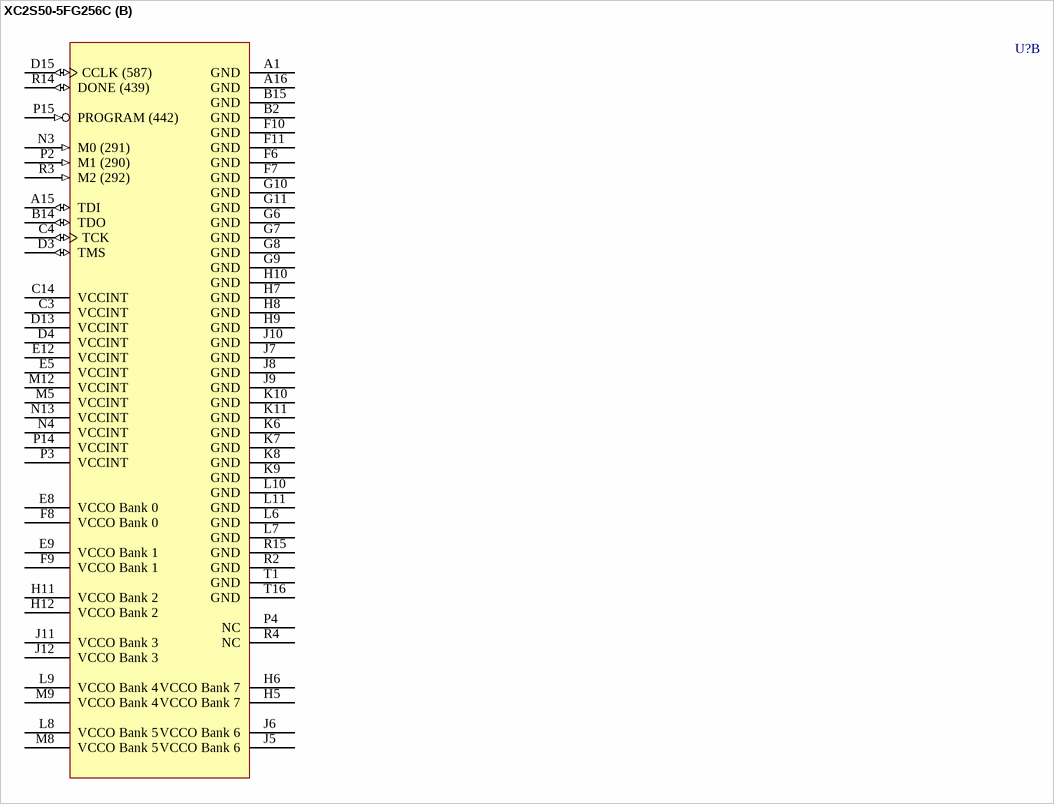
[diagram p14: symbol XC2S50-5FG256C]

## XC2S50-5FG256C
designator U?
Spartan-II 2.5V FPGA, 256-Ball FBGA, Standard Performance, Commercial Grade; PackageDocument: ver1.1, Apr-2001; Published: 13-Jul-2001; LatestRevisionDate: 17-Jul-2002; LatestRevisionNote: Re-released for DXP Platform.; DatasheetDocument: Sep-2003; PackageReference: FG256; Publisher: Altium Limited; Code_JEDEC: MO-151-AAF-1; Code_IPC: PBGA 17X17 FE256
footprint FG256 (256-Ball Fine Pitch Ball Grid Array (FG256))
3D model XC2S50-FG256 (256-Ball Fine Pitch Ball Grid Array (FG256))
signal-integrity model XC2S50_FG256 (Spartan-II)
part A pins: A2 I/O (152) (io), A3 I/O (134) (io), A4 I/O (122) (io), A5 I/O (110) (io), A6 I/O (86) (io), A7 I/O (80) (io), A8 I/O (66) (io), A9 I/O (60) (io), A10 I/O (51) (io), A11 I/O (36) (io), A12 I/O (27) (io), A13 I/O (21) (io), A14 I/O (9) (io), B1 I/O (155) (io), B3 I/O (140) (io), B4 I/O, VREF (125) (io), B5 I/O (116) (io), B6 I/O (107) (io), B7 I/O, VREF (89) (io), B8 GCK3 (73) (in), B9 I/O, VREF (54) (io), B10 I/O (45) (io), B11 I/O (33) (io), B12 I/O (15) (io), B13 I/O (~{CS}) (0) (io), B16 I/O (578) (io), C1 I/O, VREF (164) (io), C2 I/O (149) (io), C5 I/O (137) (io), C6 I/O (113) (io), C7 I/O (104) (io), C8 I/O (92) (io), C9 GCK2 (72) (in), C10 I/O (39) (io), C11 I/O, VREF (18) (io), C12 I/O (6) (io), C13 I/O (~{WRITE}) (3) (io), C15 I/O (DOUT, BUSY) (584) (io), C16 I/O (572) (io), D1 I/O (176) (io), D2 I/O (161) (io), D5 I/O (131) (io), D6 I/O (119) (io), D7 I/O (95) (io), D8 I/O (83) (io), D9 I/O (63) (io), D10 I/O (48) (io), D11 I/O (24) (io), D12 I/O (12) (io), D14 I/O (DIN, D0) (581) (io), D16 I/O (557) (io), E1 I/O (179) (io), E2 I/O (170) (io), E3 I/O (158) (io), E4 I/O (173) (io), E6 I/O (128) (io), E7 I/O (98) (io), E10 I/O (57) (io), E11 I/O (30) (io), E13 I/O (575) (io), E14 I/O (569) (io), E15 I/O (563) (io), E16 I/O (D1) (551) (io), F1 I/O (188) (io), F2 I/O (182) (io), F3 I/O (167) (io), F4 I/O (191) (io), F5 I/O (194) (io), F12 I/O (560) (io), F13 I/O, VREF (566) (io), F14 I/O (554) (io), F15 I/O (D2) (548) (io), F16 I/O (542) (io), G1 I/O, IRDY (215) (io), G2 I/O (197) (io), G3 I/O (185) (io), G4 I/O (203) (io), G5 I/O (209) (io), G12 I/O (539) (io), G13 I/O (545) (io), G14 I/O (533) (io), G15 I/O (536) (io), G16 I/O (D3) (527) (io), H1 I/O (224) (io), H2 I/O (206) (io), H3 I/O, VREF (200) (io), H4 I/O (212) (io), H13 I/O, VREF (530) (io), H14 I/O (518) (io), H15 I/O (521) (io), H16 I/O, IRDY (515) (io), J1 I/O (230) (io), J2 I/O, TRDY (218) (io), J3 I/O, VREF (233) (io), J4 I/O (227) (io), J13 I/O (524) (io), J14 I/O (503) (io), J15 I/O, TRDY (512) (io), J16 I/O (D4) (500) (io), K1 I/O (242) (io), K2 I/O (239) (io), K3 I/O (245) (io), K4 I/O (254) (io), K5 I/O (236) (io), K12 I/O (494) (io), K13 I/O (488) (io), K14 I/O (482) (io), K15 I/O (506) (io), K16 I/O, VREF (497) (io), L1 I/O (248) (io), L2 I/O (251) (io), L3 I/O (266) (io), L4 I/O (260) (io), L5 I/O (275) (io), L12 I/O (467) (io), L13 I/O (473) (io), L14 I/O, VREF (461) (io), L15 I/O (491) (io), L16 I/O (485) (io), M1 I/O (257) (io), M2 I/O (263) (io), M3 I/O (287) (io), M4 I/O (281) (io), M6 I/O (314) (io), M7 I/O (332) (io), M10 I/O (385) (io), M11 I/O (403) (io), M13 I/O (452) (io), M14 I/O (458) (io), M15 I/O (464) (io), M16 I/O (D5) (479) (io), N1 I/O, VREF (269) (io), N2 I/O (278) (io), N5 I/O (299) (io), N6 I/O (320) (io), N7 I/O (338) (io), N8 GCK0 (366) (in), N9 I/O (370) (io), N10 I/O (376) (io), N11 I/O (409) (io), N12 I/O (424) (io), N14 I/O (D7) (446) (io), N15 I/O (~{INIT}) (443) (io), N16 I/O (D6) (476) (io), P1 I/O (272) (io), P5 I/O (305) (io), P6 I/O (326) (io), P7 I/O (344) (io), P8 I/O, VREF (347) (io), P9 I/O, VREF (382) (io), P10 I/O (391) (io), P11 I/O (415) (io), P12 I/O (430) (io), P13 I/O (433) (io), P16 I/O (470) (io), R1 I/O (284) (io), R5 I/O (323) (io), R6 I/O (329) (io), R7 I/O (350) (io), R8 GCK1 (365) (in), R9 I/O (373) (io), R10 I/O (388) (io), R11 I/O (400) (io), R12 I/O (412) (io), R13 I/O (427) (io), R16 I/O (455) (io), T2 I/O (302) (io), T3 I/O (308) (io), T4 I/O, VREF (311) (io), T5 I/O (317) (io), T6 I/O (341) (io), T7 I/O (353) (io), T8 I/O (356) (io), T9 I/O (379) (io), T10 I/O (397) (io), T11 I/O (406) (io), T12 I/O, VREF (418) (io), T13 I/O (421) (io), T14 I/O (436) (io), T15 I/O (449) (io)
part B pins: A1 GND (power), A15 TDI (io), A16 GND (power), B2 GND (power), B14 TDO (io), B15 GND (power), C3 VCCINT (power), C4 TCK (io), C14 VCCINT (power), D3 TMS (io), D4 VCCINT (power), D13 VCCINT (power), D15 CCLK (587) (io), E5 VCCINT (power), E8 VCCO Bank 0 (power), E9 VCCO Bank 1 (power), E12 VCCINT (power), F6 GND (power), F7 GND (power), F8 VCCO Bank 0 (power), F9 VCCO Bank 1 (power), F10 GND (power), F11 GND (power), G6 GND (power), G7 GND (power), G8 GND (power), G9 GND (power), G10 GND (power), G11 GND (power), H5 VCCO Bank 7 (power), H6 VCCO Bank 7 (power), H7 GND (power), H8 GND (power), H9 GND (power), H10 GND (power), H11 VCCO Bank 2 (power), H12 VCCO Bank 2 (power), J5 VCCO Bank 6 (power), J6 VCCO Bank 6 (power), J7 GND (power), J8 GND (power), J9 GND (power), J10 GND (power), J11 VCCO Bank 3 (power), J12 VCCO Bank 3 (power), K6 GND (power), K7 GND (power), K8 GND (power), K9 GND (power), K10 GND (power), K11 GND (power), L6 GND (power), L7 GND (power), L8 VCCO Bank 5 (power), L9 VCCO Bank 4 (power), L10 GND (power), L11 GND (power), M5 VCCINT (power), M8 VCCO Bank 5 (power), M9 VCCO Bank 4 (power), M12 VCCINT (power), N3 M0 (291) (in), N4 VCCINT (power), N13 VCCINT (power), P2 M1 (290) (in), P3 VCCINT (power), P4 NC, P14 VCCINT (power), P15 PROGRAM (442) (in), R2 GND (power), R3 M2 (292) (in), R4 NC, R14 DONE (439) (io), R15 GND (power), T1 GND (power), T16 GND (power)
part A text: BANK 0; BANK 1; BANK 7; BANK 2; BANK 6; BANK 3; BANK 5; BANK 4

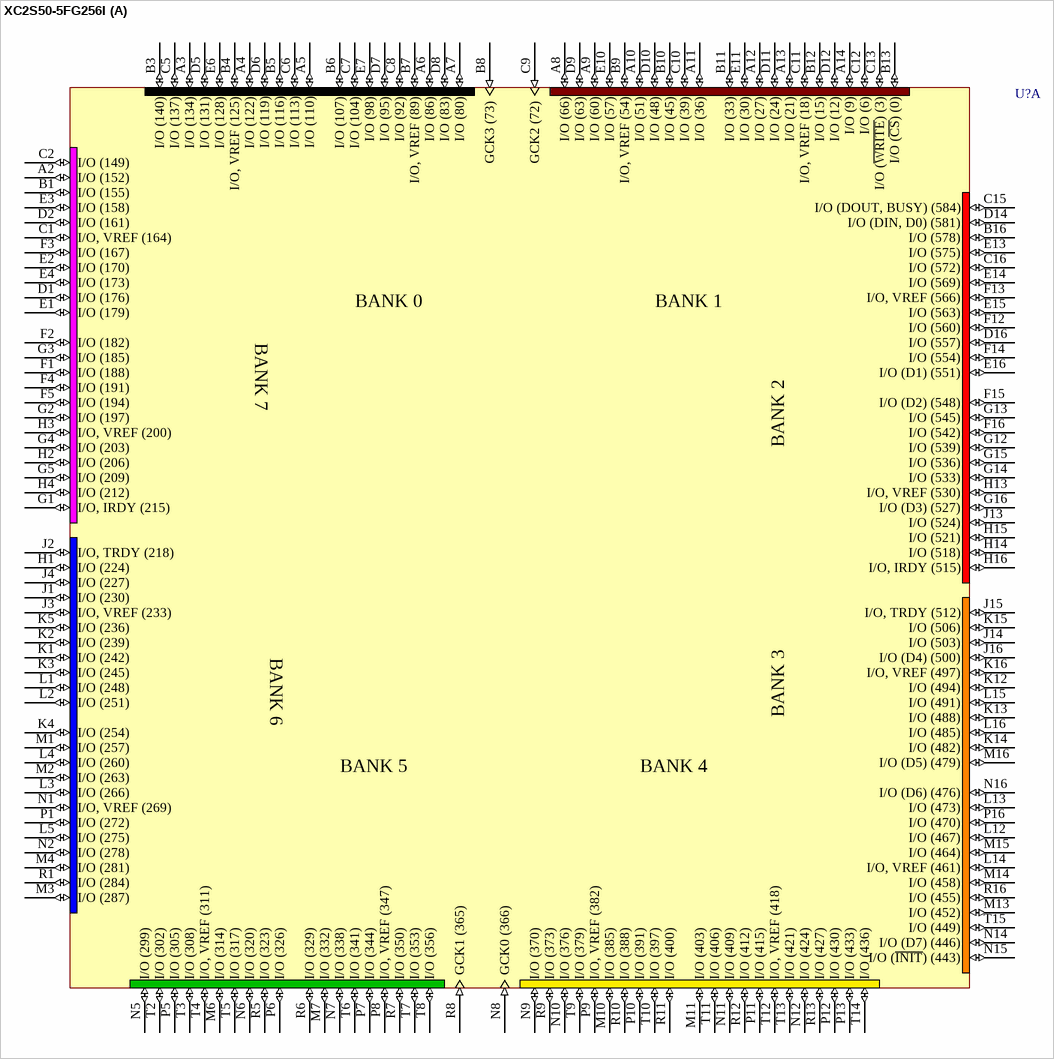
[diagram p15: symbol XC2S50-5FG256I]

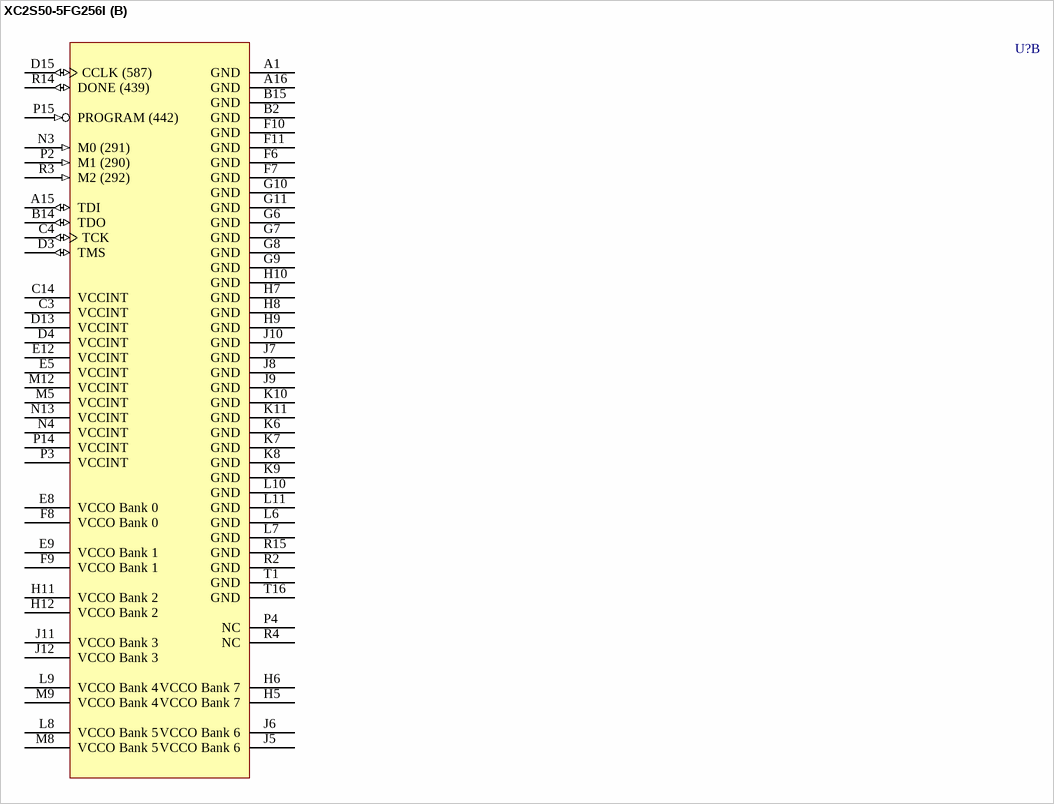
[diagram p16: symbol XC2S50-5FG256I]

## XC2S50-5FG256I
designator U?
Spartan-II 2.5V FPGA, 256-Ball FBGA, Standard Performance, Industrial Grade; PackageDocument: ver1.1, Apr-2001; Published: 13-Jul-2001; LatestRevisionDate: 17-Jul-2002; LatestRevisionNote: Re-released for DXP Platform.; DatasheetDocument: Sep-2003; PackageReference: FG256; Publisher: Altium Limited; Code_JEDEC: MO-151-AAF-1; Code_IPC: PBGA 17X17 FE256
footprint FG256 (256-Ball Fine Pitch Ball Grid Array (FG256))
3D model XC2S50-FG256 (256-Ball Fine Pitch Ball Grid Array (FG256))
signal-integrity model XC2S50_FG256 (Spartan-II)
part A pins: A2 I/O (152) (io), A3 I/O (134) (io), A4 I/O (122) (io), A5 I/O (110) (io), A6 I/O (86) (io), A7 I/O (80) (io), A8 I/O (66) (io), A9 I/O (60) (io), A10 I/O (51) (io), A11 I/O (36) (io), A12 I/O (27) (io), A13 I/O (21) (io), A14 I/O (9) (io), B1 I/O (155) (io), B3 I/O (140) (io), B4 I/O, VREF (125) (io), B5 I/O (116) (io), B6 I/O (107) (io), B7 I/O, VREF (89) (io), B8 GCK3 (73) (in), B9 I/O, VREF (54) (io), B10 I/O (45) (io), B11 I/O (33) (io), B12 I/O (15) (io), B13 I/O (~{CS}) (0) (io), B16 I/O (578) (io), C1 I/O, VREF (164) (io), C2 I/O (149) (io), C5 I/O (137) (io), C6 I/O (113) (io), C7 I/O (104) (io), C8 I/O (92) (io), C9 GCK2 (72) (in), C10 I/O (39) (io), C11 I/O, VREF (18) (io), C12 I/O (6) (io), C13 I/O (~{WRITE}) (3) (io), C15 I/O (DOUT, BUSY) (584) (io), C16 I/O (572) (io), D1 I/O (176) (io), D2 I/O (161) (io), D5 I/O (131) (io), D6 I/O (119) (io), D7 I/O (95) (io), D8 I/O (83) (io), D9 I/O (63) (io), D10 I/O (48) (io), D11 I/O (24) (io), D12 I/O (12) (io), D14 I/O (DIN, D0) (581) (io), D16 I/O (557) (io), E1 I/O (179) (io), E2 I/O (170) (io), E3 I/O (158) (io), E4 I/O (173) (io), E6 I/O (128) (io), E7 I/O (98) (io), E10 I/O (57) (io), E11 I/O (30) (io), E13 I/O (575) (io), E14 I/O (569) (io), E15 I/O (563) (io), E16 I/O (D1) (551) (io), F1 I/O (188) (io), F2 I/O (182) (io), F3 I/O (167) (io), F4 I/O (191) (io), F5 I/O (194) (io), F12 I/O (560) (io), F13 I/O, VREF (566) (io), F14 I/O (554) (io), F15 I/O (D2) (548) (io), F16 I/O (542) (io), G1 I/O, IRDY (215) (io), G2 I/O (197) (io), G3 I/O (185) (io), G4 I/O (203) (io), G5 I/O (209) (io), G12 I/O (539) (io), G13 I/O (545) (io), G14 I/O (533) (io), G15 I/O (536) (io), G16 I/O (D3) (527) (io), H1 I/O (224) (io), H2 I/O (206) (io), H3 I/O, VREF (200) (io), H4 I/O (212) (io), H13 I/O, VREF (530) (io), H14 I/O (518) (io), H15 I/O (521) (io), H16 I/O, IRDY (515) (io), J1 I/O (230) (io), J2 I/O, TRDY (218) (io), J3 I/O, VREF (233) (io), J4 I/O (227) (io), J13 I/O (524) (io), J14 I/O (503) (io), J15 I/O, TRDY (512) (io), J16 I/O (D4) (500) (io), K1 I/O (242) (io), K2 I/O (239) (io), K3 I/O (245) (io), K4 I/O (254) (io), K5 I/O (236) (io), K12 I/O (494) (io), K13 I/O (488) (io), K14 I/O (482) (io), K15 I/O (506) (io), K16 I/O, VREF (497) (io), L1 I/O (248) (io), L2 I/O (251) (io), L3 I/O (266) (io), L4 I/O (260) (io), L5 I/O (275) (io), L12 I/O (467) (io), L13 I/O (473) (io), L14 I/O, VREF (461) (io), L15 I/O (491) (io), L16 I/O (485) (io), M1 I/O (257) (io), M2 I/O (263) (io), M3 I/O (287) (io), M4 I/O (281) (io), M6 I/O (314) (io), M7 I/O (332) (io), M10 I/O (385) (io), M11 I/O (403) (io), M13 I/O (452) (io), M14 I/O (458) (io), M15 I/O (464) (io), M16 I/O (D5) (479) (io), N1 I/O, VREF (269) (io), N2 I/O (278) (io), N5 I/O (299) (io), N6 I/O (320) (io), N7 I/O (338) (io), N8 GCK0 (366) (in), N9 I/O (370) (io), N10 I/O (376) (io), N11 I/O (409) (io), N12 I/O (424) (io), N14 I/O (D7) (446) (io), N15 I/O (~{INIT}) (443) (io), N16 I/O (D6) (476) (io), P1 I/O (272) (io), P5 I/O (305) (io), P6 I/O (326) (io), P7 I/O (344) (io), P8 I/O, VREF (347) (io), P9 I/O, VREF (382) (io), P10 I/O (391) (io), P11 I/O (415) (io), P12 I/O (430) (io), P13 I/O (433) (io), P16 I/O (470) (io), R1 I/O (284) (io), R5 I/O (323) (io), R6 I/O (329) (io), R7 I/O (350) (io), R8 GCK1 (365) (in), R9 I/O (373) (io), R10 I/O (388) (io), R11 I/O (400) (io), R12 I/O (412) (io), R13 I/O (427) (io), R16 I/O (455) (io), T2 I/O (302) (io), T3 I/O (308) (io), T4 I/O, VREF (311) (io), T5 I/O (317) (io), T6 I/O (341) (io), T7 I/O (353) (io), T8 I/O (356) (io), T9 I/O (379) (io), T10 I/O (397) (io), T11 I/O (406) (io), T12 I/O, VREF (418) (io), T13 I/O (421) (io), T14 I/O (436) (io), T15 I/O (449) (io)
part B pins: A1 GND (power), A15 TDI (io), A16 GND (power), B2 GND (power), B14 TDO (io), B15 GND (power), C3 VCCINT (power), C4 TCK (io), C14 VCCINT (power), D3 TMS (io), D4 VCCINT (power), D13 VCCINT (power), D15 CCLK (587) (io), E5 VCCINT (power), E8 VCCO Bank 0 (power), E9 VCCO Bank 1 (power), E12 VCCINT (power), F6 GND (power), F7 GND (power), F8 VCCO Bank 0 (power), F9 VCCO Bank 1 (power), F10 GND (power), F11 GND (power), G6 GND (power), G7 GND (power), G8 GND (power), G9 GND (power), G10 GND (power), G11 GND (power), H5 VCCO Bank 7 (power), H6 VCCO Bank 7 (power), H7 GND (power), H8 GND (power), H9 GND (power), H10 GND (power), H11 VCCO Bank 2 (power), H12 VCCO Bank 2 (power), J5 VCCO Bank 6 (power), J6 VCCO Bank 6 (power), J7 GND (power), J8 GND (power), J9 GND (power), J10 GND (power), J11 VCCO Bank 3 (power), J12 VCCO Bank 3 (power), K6 GND (power), K7 GND (power), K8 GND (power), K9 GND (power), K10 GND (power), K11 GND (power), L6 GND (power), L7 GND (power), L8 VCCO Bank 5 (power), L9 VCCO Bank 4 (power), L10 GND (power), L11 GND (power), M5 VCCINT (power), M8 VCCO Bank 5 (power), M9 VCCO Bank 4 (power), M12 VCCINT (power), N3 M0 (291) (in), N4 VCCINT (power), N13 VCCINT (power), P2 M1 (290) (in), P3 VCCINT (power), P4 NC, P14 VCCINT (power), P15 PROGRAM (442) (in), R2 GND (power), R3 M2 (292) (in), R4 NC, R14 DONE (439) (io), R15 GND (power), T1 GND (power), T16 GND (power)
part A text: BANK 0; BANK 1; BANK 7; BANK 2; BANK 6; BANK 3; BANK 5; BANK 4

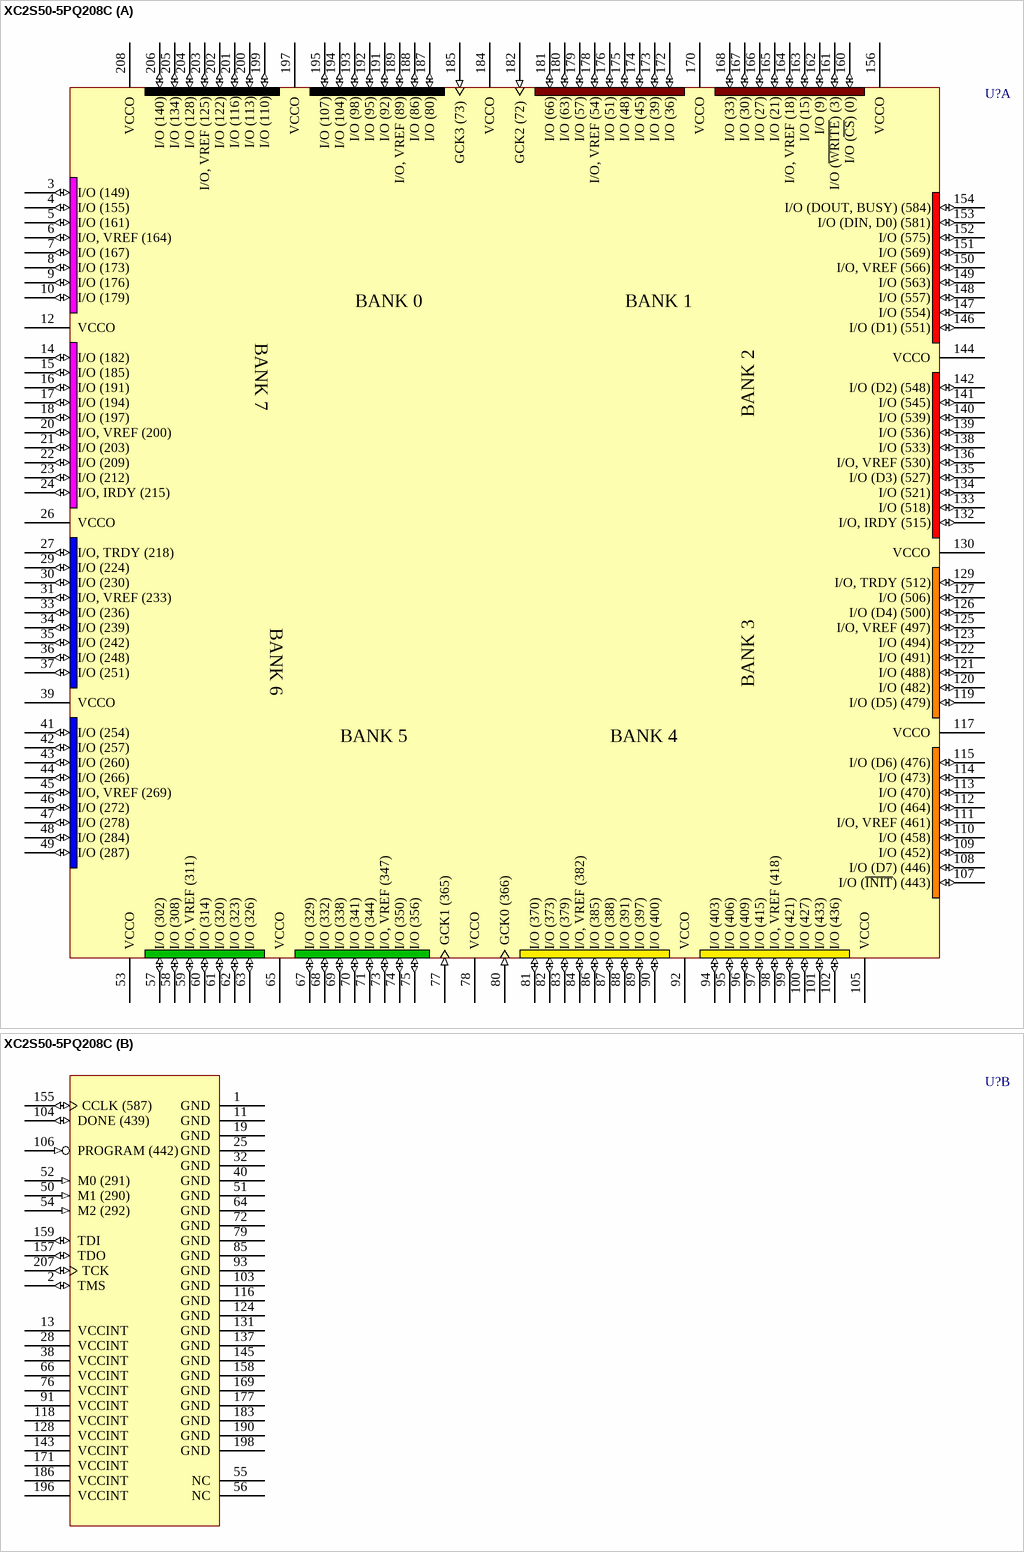
[diagram p17: symbol XC2S50-5PQ208C]

## XC2S50-5PQ208C
designator U?
Spartan-II 2.5V FPGA, 208-Pin PQFP, Standard Performance, Commercial Grade; PackageDocument: ver1.1, Oct-2002; Published: 13-Jul-2001; LatestRevisionDate: 17-Jul-2002; LatestRevisionNote: Re-released for DXP Platform.; DatasheetDocument: Sep-2003; PackageReference: PQ208; Publisher: Altium Limited; Code_JEDEC: MS-029-FA-1
footprint PQ208 (208-Pin Plastic Quad Flat Pack (PQ208))
3D model XC2S50-PQ208 (208-Pin Plastic Quad Flat Pack (PQ208))
signal-integrity model XC2S50_PQ208 (Spartan-II)
part A pins: 3 I/O (149) (io), 4 I/O (155) (io), 5 I/O (161) (io), 6 I/O, VREF (164) (io), 7 I/O (167) (io), 8 I/O (173) (io), 9 I/O (176) (io), 10 I/O (179) (io), 12 VCCO (power), 14 I/O (182) (io), 15 I/O (185) (io), 16 I/O (191) (io), 17 I/O (194) (io), 18 I/O (197) (io), 20 I/O, VREF (200) (io), 21 I/O (203) (io), 22 I/O (209) (io), 23 I/O (212) (io), 24 I/O, IRDY (215) (io), 26 VCCO (power), 27 I/O, TRDY (218) (io), 29 I/O (224) (io), 30 I/O (230) (io), 31 I/O, VREF (233) (io), 33 I/O (236) (io), 34 I/O (239) (io), 35 I/O (242) (io), 36 I/O (248) (io), 37 I/O (251) (io), 39 VCCO (power), 41 I/O (254) (io), 42 I/O (257) (io), 43 I/O (260) (io), 44 I/O (266) (io), 45 I/O, VREF (269) (io), 46 I/O (272) (io), 47 I/O (278) (io), 48 I/O (284) (io), 49 I/O (287) (io), 53 VCCO (power), 57 I/O (302) (io), 58 I/O (308) (io), 59 I/O, VREF (311) (io), 60 I/O (314) (io), 61 I/O (320) (io), 62 I/O (323) (io), 63 I/O (326) (io), 65 VCCO (power), 67 I/O (329) (io), 68 I/O (332) (io), 69 I/O (338) (io), 70 I/O (341) (io), 71 I/O (344) (io), 73 I/O, VREF (347) (io), 74 I/O (350) (io), 75 I/O (356) (io), 77 GCK1 (365) (in), 78 VCCO (power), 80 GCK0 (366) (in), 81 I/O (370) (io), 82 I/O (373) (io), 83 I/O (379) (io), 84 I/O, VREF (382) (io), 86 I/O (385) (io), 87 I/O (388) (io), 88 I/O (391) (io), 89 I/O (397) (io), 90 I/O (400) (io), 92 VCCO (power), 94 I/O (403) (io), 95 I/O (406) (io), 96 I/O (409) (io), 97 I/O (415) (io), 98 I/O, VREF (418) (io), 99 I/O (421) (io), 100 I/O (427) (io), 101 I/O (433) (io), 102 I/O (436) (io), 105 VCCO (power), 107 I/O (~{INIT}) (443) (io), 108 I/O (D7) (446) (io), 109 I/O (452) (io), 110 I/O (458) (io), 111 I/O, VREF (461) (io), 112 I/O (464) (io), 113 I/O (470) (io), 114 I/O (473) (io), 115 I/O (D6) (476) (io), 117 VCCO (power), 119 I/O (D5) (479) (io), 120 I/O (482) (io), 121 I/O (488) (io), 122 I/O (491) (io), 123 I/O (494) (io), 125 I/O, VREF (497) (io), 126 I/O (D4) (500) (io), 127 I/O (506) (io), 129 I/O, TRDY (512) (io), 130 VCCO (power), 132 I/O, IRDY (515) (io), 133 I/O (518) (io), 134 I/O (521) (io), 135 I/O (D3) (527) (io), 136 I/O, VREF (530) (io), 138 I/O (533) (io), 139 I/O (536) (io), 140 I/O (539) (io), 141 I/O (545) (io), 142 I/O (D2) (548) (io), 144 VCCO (power), 146 I/O (D1) (551) (io), 147 I/O (554) (io), 148 I/O (557) (io), 149 I/O (563) (io), 150 I/O, VREF (566) (io), 151 I/O (569) (io), 152 I/O (575) (io), 153 I/O (DIN, D0) (581) (io), 154 I/O (DOUT, BUSY) (584) (io), 156 VCCO (power), 160 I/O (~{CS}) (0) (io), 161 I/O (~{WRITE}) (3) (io), 162 I/O (9) (io), 163 I/O (15) (io), 164 I/O, VREF (18) (io), 165 I/O (21) (io), 166 I/O (27) (io), 167 I/O (30) (io), 168 I/O (33) (io), 170 VCCO (power), 172 I/O (36) (io), 173 I/O (39) (io), 174 I/O (45) (io), 175 I/O (48) (io), 176 I/O (51) (io), 178 I/O, VREF (54) (io), 179 I/O (57) (io), 180 I/O (63) (io), 181 I/O (66) (io), 182 GCK2 (72) (in), 184 VCCO (power), 185 GCK3 (73) (in), 187 I/O (80) (io), 188 I/O (86) (io), 189 I/O, VREF (89) (io), 191 I/O (92) (io), 192 I/O (95) (io), 193 I/O (98) (io), 194 I/O (104) (io), 195 I/O (107) (io), 197 VCCO (power), 199 I/O (110) (io), 200 I/O (113) (io), 201 I/O (116) (io), 202 I/O (122) (io), 203 I/O, VREF (125) (io), 204 I/O (128) (io), 205 I/O (134) (io), 206 I/O (140) (io), 208 VCCO (power)
part B pins: 1 GND (power), 2 TMS (io), 11 GND (power), 13 VCCINT (power), 19 GND (power), 25 GND (power), 28 VCCINT (power), 32 GND (power), 38 VCCINT (power), 40 GND (power), 50 M1 (290) (in), 51 GND (power), 52 M0 (291) (in), 54 M2 (292) (in), 55 NC, 56 NC, 64 GND (power), 66 VCCINT (power), 72 GND (power), 76 VCCINT (power), 79 GND (power), 85 GND (power), 91 VCCINT (power), 93 GND (power), 103 GND (power), 104 DONE (439) (io), 106 PROGRAM (442) (in), 116 GND (power), 118 VCCINT (power), 124 GND (power), 128 VCCINT (power), 131 GND (power), 137 GND (power), 143 VCCINT (power), 145 GND (power), 155 CCLK (587) (io), 157 TDO (io), 158 GND (power), 159 TDI (io), 169 GND (power), 171 VCCINT (power), 177 GND (power), 183 GND (power), 186 VCCINT (power), 190 GND (power), 196 VCCINT (power), 198 GND (power), 207 TCK (io)
part A text: BANK 0; BANK 1; BANK 7; BANK 2; BANK 6; BANK 3; BANK 5; BANK 4

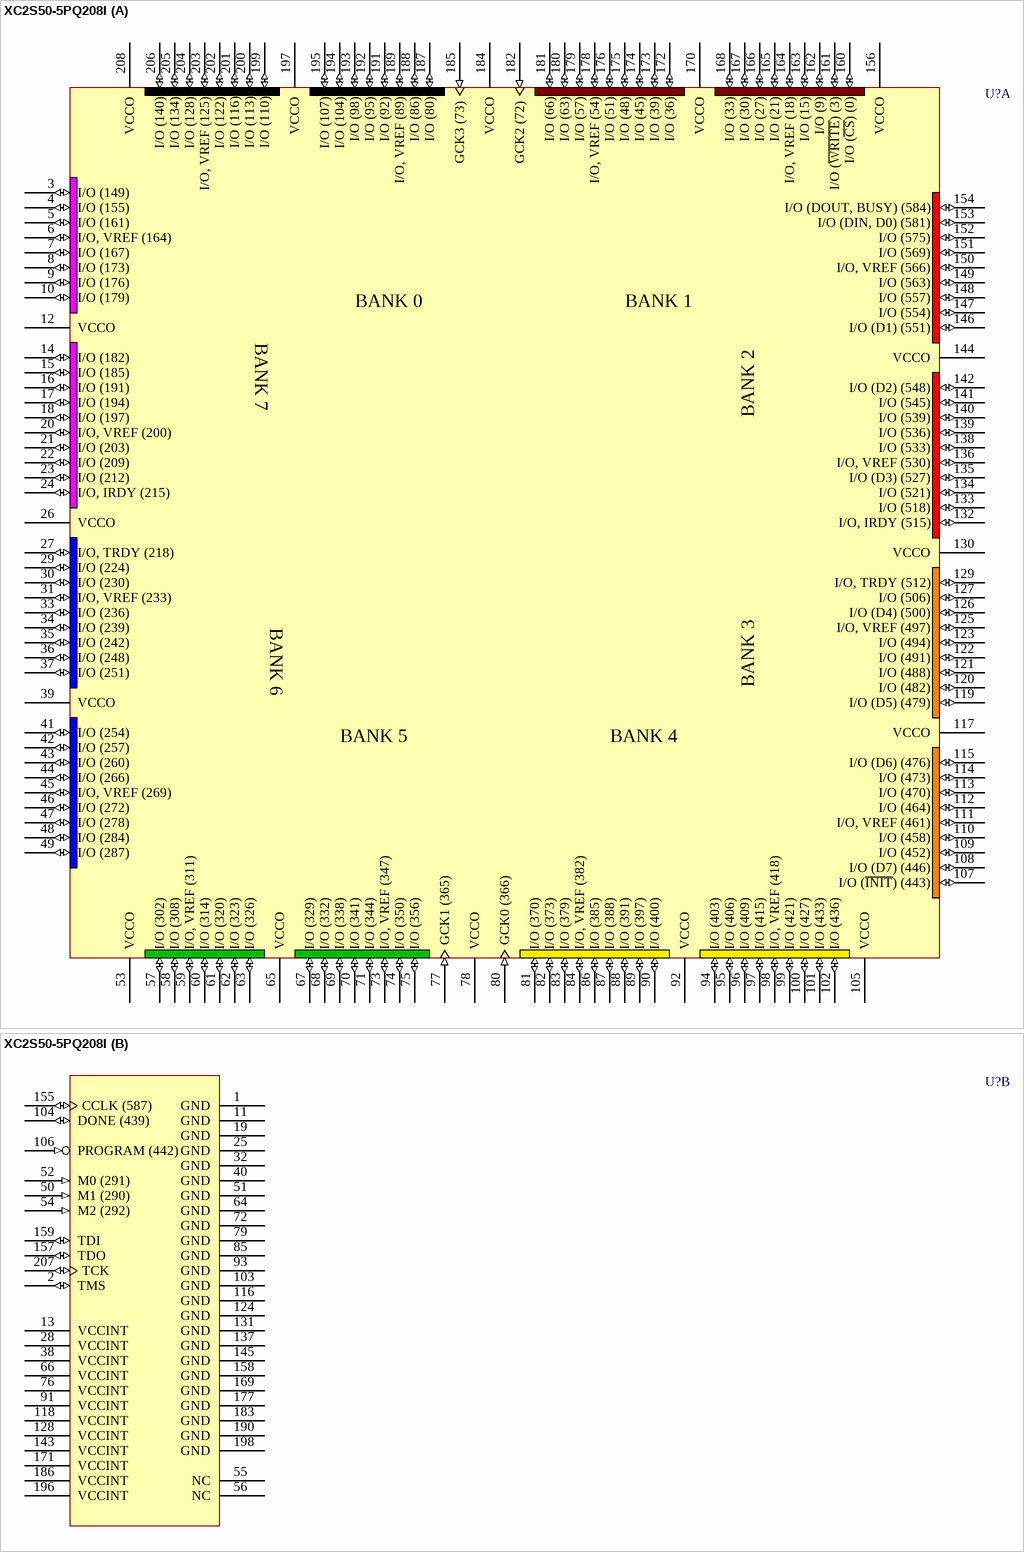
[diagram p18: symbol XC2S50-5PQ208I]

## XC2S50-5PQ208I
designator U?
Spartan-II 2.5V FPGA, 208-Pin PQFP, Standard Performance, Industrial Grade; PackageDocument: ver1.1, Oct-2002; Published: 13-Jul-2001; LatestRevisionDate: 17-Jul-2002; LatestRevisionNote: Re-released for DXP Platform.; DatasheetDocument: Sep-2003; PackageReference: PQ208; Publisher: Altium Limited; Code_JEDEC: MS-029-FA-1
footprint PQ208 (208-Pin Plastic Quad Flat Pack (PQ208))
3D model XC2S50-PQ208 (208-Pin Plastic Quad Flat Pack (PQ208))
signal-integrity model XC2S50_PQ208 (Spartan-II)
part A pins: 3 I/O (149) (io), 4 I/O (155) (io), 5 I/O (161) (io), 6 I/O, VREF (164) (io), 7 I/O (167) (io), 8 I/O (173) (io), 9 I/O (176) (io), 10 I/O (179) (io), 12 VCCO (power), 14 I/O (182) (io), 15 I/O (185) (io), 16 I/O (191) (io), 17 I/O (194) (io), 18 I/O (197) (io), 20 I/O, VREF (200) (io), 21 I/O (203) (io), 22 I/O (209) (io), 23 I/O (212) (io), 24 I/O, IRDY (215) (io), 26 VCCO (power), 27 I/O, TRDY (218) (io), 29 I/O (224) (io), 30 I/O (230) (io), 31 I/O, VREF (233) (io), 33 I/O (236) (io), 34 I/O (239) (io), 35 I/O (242) (io), 36 I/O (248) (io), 37 I/O (251) (io), 39 VCCO (power), 41 I/O (254) (io), 42 I/O (257) (io), 43 I/O (260) (io), 44 I/O (266) (io), 45 I/O, VREF (269) (io), 46 I/O (272) (io), 47 I/O (278) (io), 48 I/O (284) (io), 49 I/O (287) (io), 53 VCCO (power), 57 I/O (302) (io), 58 I/O (308) (io), 59 I/O, VREF (311) (io), 60 I/O (314) (io), 61 I/O (320) (io), 62 I/O (323) (io), 63 I/O (326) (io), 65 VCCO (power), 67 I/O (329) (io), 68 I/O (332) (io), 69 I/O (338) (io), 70 I/O (341) (io), 71 I/O (344) (io), 73 I/O, VREF (347) (io), 74 I/O (350) (io), 75 I/O (356) (io), 77 GCK1 (365) (in), 78 VCCO (power), 80 GCK0 (366) (in), 81 I/O (370) (io), 82 I/O (373) (io), 83 I/O (379) (io), 84 I/O, VREF (382) (io), 86 I/O (385) (io), 87 I/O (388) (io), 88 I/O (391) (io), 89 I/O (397) (io), 90 I/O (400) (io), 92 VCCO (power), 94 I/O (403) (io), 95 I/O (406) (io), 96 I/O (409) (io), 97 I/O (415) (io), 98 I/O, VREF (418) (io), 99 I/O (421) (io), 100 I/O (427) (io), 101 I/O (433) (io), 102 I/O (436) (io), 105 VCCO (power), 107 I/O (~{INIT}) (443) (io), 108 I/O (D7) (446) (io), 109 I/O (452) (io), 110 I/O (458) (io), 111 I/O, VREF (461) (io), 112 I/O (464) (io), 113 I/O (470) (io), 114 I/O (473) (io), 115 I/O (D6) (476) (io), 117 VCCO (power), 119 I/O (D5) (479) (io), 120 I/O (482) (io), 121 I/O (488) (io), 122 I/O (491) (io), 123 I/O (494) (io), 125 I/O, VREF (497) (io), 126 I/O (D4) (500) (io), 127 I/O (506) (io), 129 I/O, TRDY (512) (io), 130 VCCO (power), 132 I/O, IRDY (515) (io), 133 I/O (518) (io), 134 I/O (521) (io), 135 I/O (D3) (527) (io), 136 I/O, VREF (530) (io), 138 I/O (533) (io), 139 I/O (536) (io), 140 I/O (539) (io), 141 I/O (545) (io), 142 I/O (D2) (548) (io), 144 VCCO (power), 146 I/O (D1) (551) (io), 147 I/O (554) (io), 148 I/O (557) (io), 149 I/O (563) (io), 150 I/O, VREF (566) (io), 151 I/O (569) (io), 152 I/O (575) (io), 153 I/O (DIN, D0) (581) (io), 154 I/O (DOUT, BUSY) (584) (io), 156 VCCO (power), 160 I/O (~{CS}) (0) (io), 161 I/O (~{WRITE}) (3) (io), 162 I/O (9) (io), 163 I/O (15) (io), 164 I/O, VREF (18) (io), 165 I/O (21) (io), 166 I/O (27) (io), 167 I/O (30) (io), 168 I/O (33) (io), 170 VCCO (power), 172 I/O (36) (io), 173 I/O (39) (io), 174 I/O (45) (io), 175 I/O (48) (io), 176 I/O (51) (io), 178 I/O, VREF (54) (io), 179 I/O (57) (io), 180 I/O (63) (io), 181 I/O (66) (io), 182 GCK2 (72) (in), 184 VCCO (power), 185 GCK3 (73) (in), 187 I/O (80) (io), 188 I/O (86) (io), 189 I/O, VREF (89) (io), 191 I/O (92) (io), 192 I/O (95) (io), 193 I/O (98) (io), 194 I/O (104) (io), 195 I/O (107) (io), 197 VCCO (power), 199 I/O (110) (io), 200 I/O (113) (io), 201 I/O (116) (io), 202 I/O (122) (io), 203 I/O, VREF (125) (io), 204 I/O (128) (io), 205 I/O (134) (io), 206 I/O (140) (io), 208 VCCO (power)
part B pins: 1 GND (power), 2 TMS (io), 11 GND (power), 13 VCCINT (power), 19 GND (power), 25 GND (power), 28 VCCINT (power), 32 GND (power), 38 VCCINT (power), 40 GND (power), 50 M1 (290) (in), 51 GND (power), 52 M0 (291) (in), 54 M2 (292) (in), 55 NC, 56 NC, 64 GND (power), 66 VCCINT (power), 72 GND (power), 76 VCCINT (power), 79 GND (power), 85 GND (power), 91 VCCINT (power), 93 GND (power), 103 GND (power), 104 DONE (439) (io), 106 PROGRAM (442) (in), 116 GND (power), 118 VCCINT (power), 124 GND (power), 128 VCCINT (power), 131 GND (power), 137 GND (power), 143 VCCINT (power), 145 GND (power), 155 CCLK (587) (io), 157 TDO (io), 158 GND (power), 159 TDI (io), 169 GND (power), 171 VCCINT (power), 177 GND (power), 183 GND (power), 186 VCCINT (power), 190 GND (power), 196 VCCINT (power), 198 GND (power), 207 TCK (io)
part A text: BANK 0; BANK 1; BANK 7; BANK 2; BANK 6; BANK 3; BANK 5; BANK 4

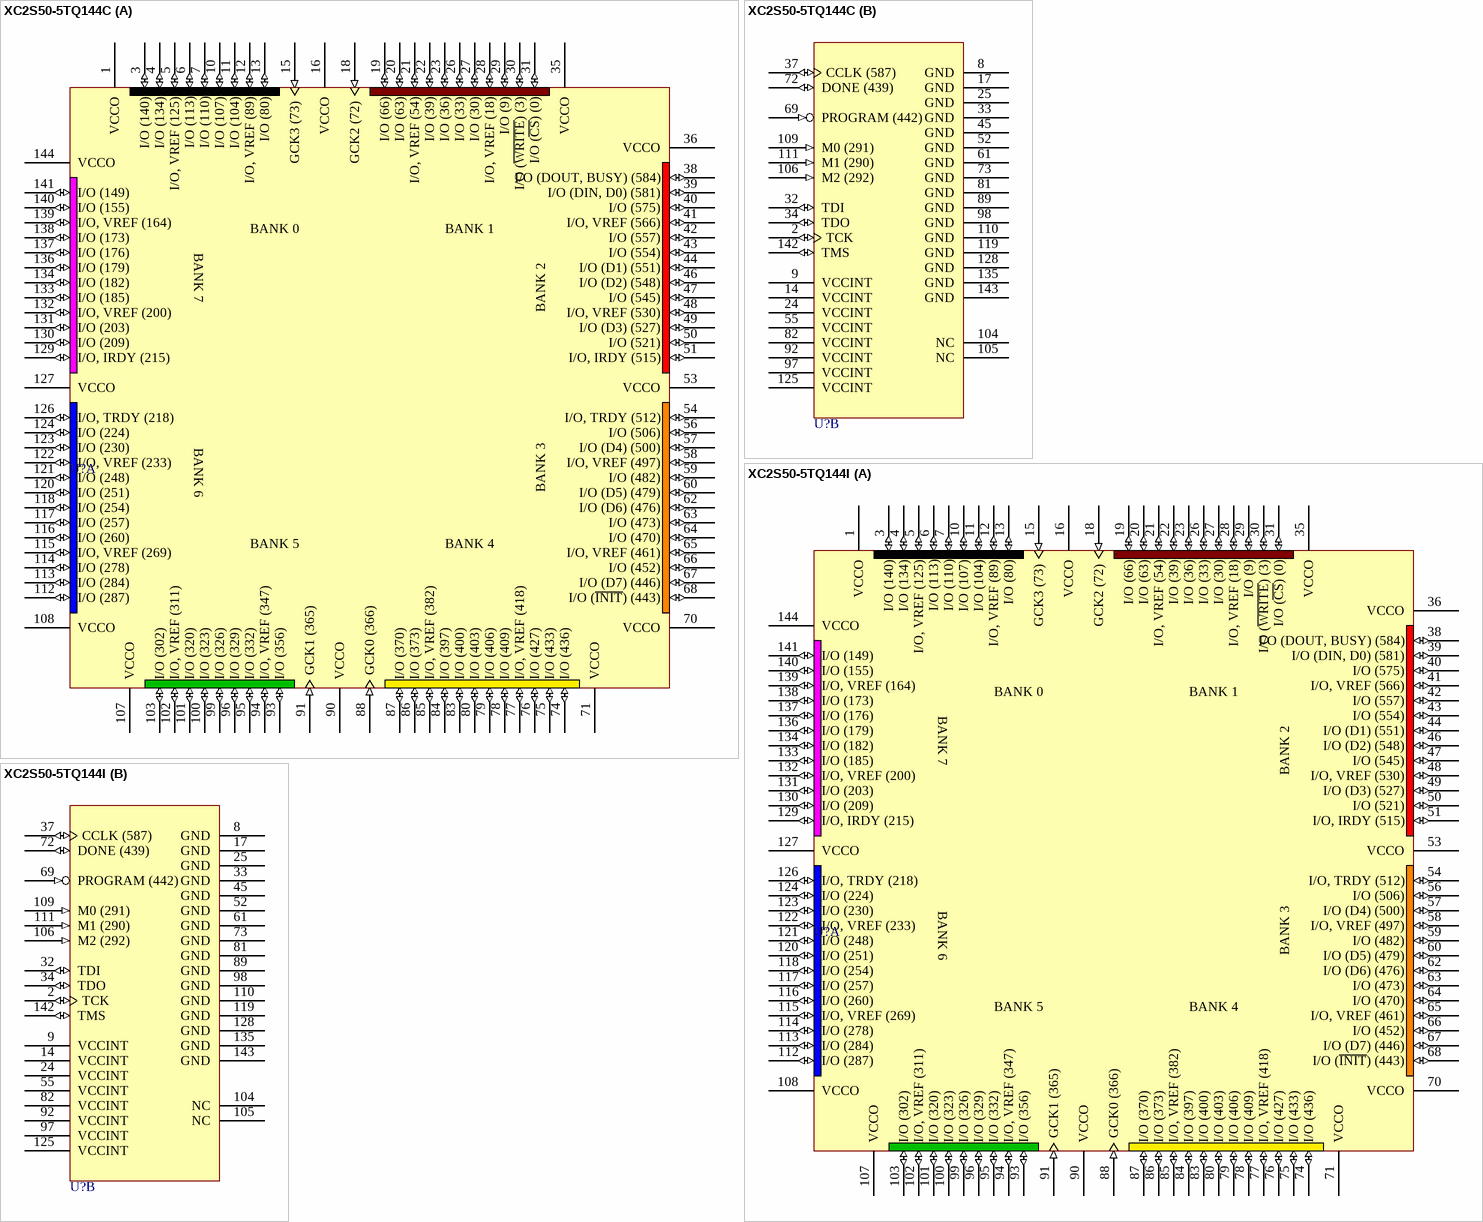
[diagram p19: symbols XC2S50-5TQ144C to XC2S50-5TQ144I]

## XC2S50-5TQ144C
designator U?
Spartan-II 2.5V FPGA, 144-Pin TQFP, Standard Performance, Commercial Grade; PackageDocument: ver1.1, Oct-2002; Published: 13-Jul-2001; LatestRevisionDate: 17-Jul-2002; LatestRevisionNote: Re-released for DXP Platform.; DatasheetDocument: Sep-2003; PackageReference: TQ144; Publisher: Altium Limited; Code_JEDEC: MS-026-BFB; Code_IPC: SQFP20X20-144
footprint TQ144 (144-Pin Thin Quad Flat Pack (TQ144))
3D model XC2S50-TQ144 (144-Pin Thin Quad Flat Pack (TQ144))
signal-integrity model XC2S50_TQ144 (Spartan-II)
part A pins: 1 VCCO (power), 3 I/O (140) (io), 4 I/O (134) (io), 5 I/O, VREF (125) (io), 6 I/O (113) (io), 7 I/O (110) (io), 10 I/O (107) (io), 11 I/O (104) (io), 12 I/O, VREF (89) (io), 13 I/O (80) (io), 15 GCK3 (73) (in), 16 VCCO (power), 18 GCK2 (72) (in), 19 I/O (66) (io), 20 I/O (63) (io), 21 I/O, VREF (54) (io), 22 I/O (39) (io), 23 I/O (36) (io), 26 I/O (33) (io), 27 I/O (30) (io), 28 I/O, VREF (18) (io), 29 I/O (9) (io), 30 I/O (~{WRITE}) (3) (io), 31 I/O (~{CS}) (0) (io), 35 VCCO (power), 36 VCCO (power), 38 I/O (DOUT, BUSY) (584) (io), 39 I/O (DIN, D0) (581) (io), 40 I/O (575) (io), 41 I/O, VREF (566) (io), 42 I/O (557) (io), 43 I/O (554) (io), 44 I/O (D1) (551) (io), 46 I/O (D2) (548) (io), 47 I/O (545) (io), 48 I/O, VREF (530) (io), 49 I/O (D3) (527) (io), 50 I/O (521) (io), 51 I/O, IRDY (515) (io), 53 VCCO (power), 54 I/O, TRDY (512) (io), 56 I/O (506) (io), 57 I/O (D4) (500) (io), 58 I/O, VREF (497) (io), 59 I/O (482) (io), 60 I/O (D5) (479) (io), 62 I/O (D6) (476) (io), 63 I/O (473) (io), 64 I/O (470) (io), 65 I/O, VREF (461) (io), 66 I/O (452) (io), 67 I/O (D7) (446) (io), 68 I/O (~{INIT}) (443) (io), 70 VCCO (power), 71 VCCO (power), 74 I/O (436) (io), 75 I/O (433) (io), 76 I/O (427) (io), 77 I/O, VREF (418) (io), 78 I/O (409) (io), 79 I/O (406) (io), 80 I/O (403) (io), 83 I/O (400) (io), 84 I/O (397) (io), 85 I/O, VREF (382) (io), 86 I/O (373) (io), 87 I/O (370) (io), 88 GCK0 (366) (in), 90 VCCO (power), 91 GCK1 (365) (in), 93 I/O (356) (io), 94 I/O, VREF (347) (io), 95 I/O (332) (io), 96 I/O (329) (io), 99 I/O (326) (io), 100 I/O (323) (io), 101 I/O (320) (io), 102 I/O, VREF (311) (io), 103 I/O (302) (io), 107 VCCO (power), 108 VCCO (power), 112 I/O (287) (io), 113 I/O (284) (io), 114 I/O (278) (io), 115 I/O, VREF (269) (io), 116 I/O (260) (io), 117 I/O (257) (io), 118 I/O (254) (io), 120 I/O (251) (io), 121 I/O (248) (io), 122 I/O, VREF (233) (io), 123 I/O (230) (io), 124 I/O (224) (io), 126 I/O, TRDY (218) (io), 127 VCCO (power), 129 I/O, IRDY (215) (io), 130 I/O (209) (io), 131 I/O (203) (io), 132 I/O, VREF (200) (io), 133 I/O (185) (io), 134 I/O (182) (io), 136 I/O (179) (io), 137 I/O (176) (io), 138 I/O (173) (io), 139 I/O, VREF (164) (io), 140 I/O (155) (io), 141 I/O (149) (io), 144 VCCO (power)
part B pins: 2 TCK (io), 8 GND (power), 9 VCCINT (power), 14 VCCINT (power), 17 GND (power), 24 VCCINT (power), 25 GND (power), 32 TDI (io), 33 GND (power), 34 TDO (io), 37 CCLK (587) (io), 45 GND (power), 52 GND (power), 55 VCCINT (power), 61 GND (power), 69 PROGRAM (442) (in), 72 DONE (439) (io), 73 GND (power), 81 GND (power), 82 VCCINT (power), 89 GND (power), 92 VCCINT (power), 97 VCCINT (power), 98 GND (power), 104 NC, 105 NC, 106 M2 (292) (in), 109 M0 (291) (in), 110 GND (power), 111 M1 (290) (in), 119 GND (power), 125 VCCINT (power), 128 GND (power), 135 GND (power), 142 TMS (io), 143 GND (power)
part A text: BANK 0; BANK 1; BANK 7; BANK 2; BANK 6; BANK 3; BANK 5; BANK 4